# Altium schematic symbol library AliPadash.SchLib: 1117 symbols (part 2 of 6)
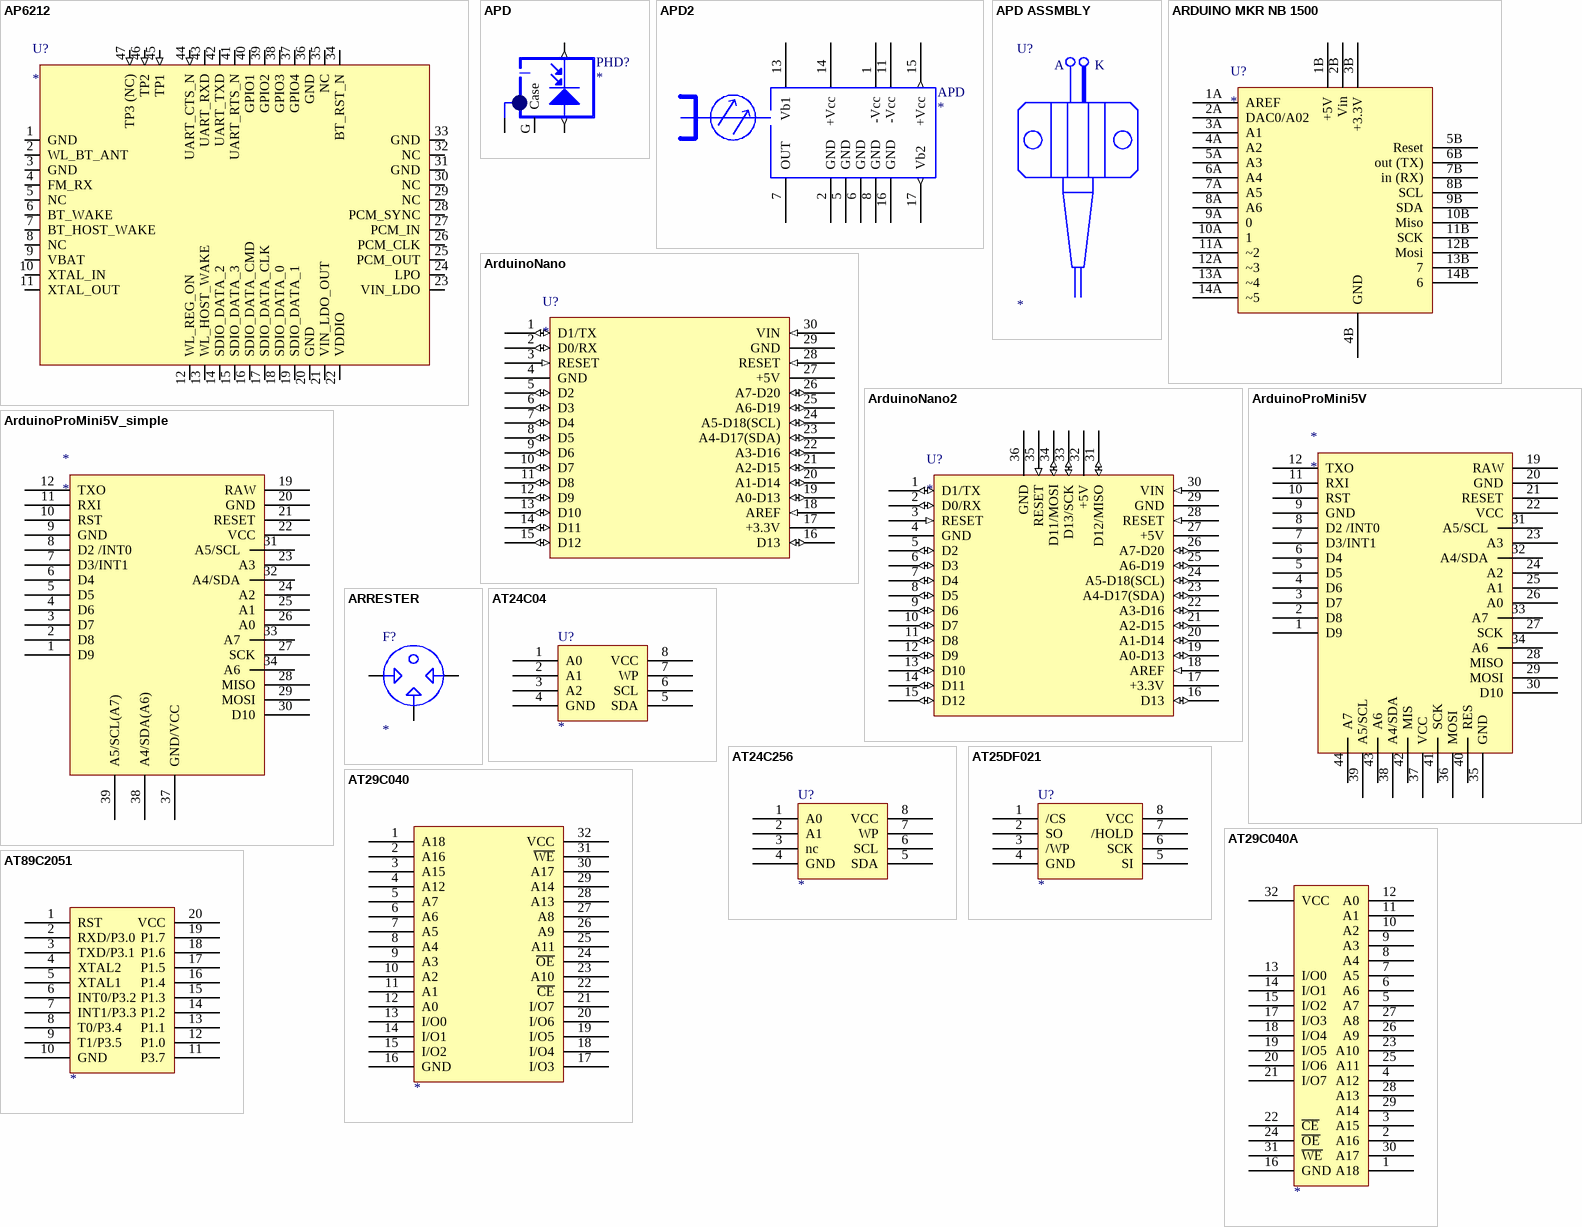
[diagram p84: symbols AP6212 to AT89C2051]

## AT29C040A
designator ?
pins: 1 A18, 2 A16, 3 A15, 4 A12, 5 A7, 6 A6, 7 A5, 8 A4, 9 A3, 10 A2, 11 A1, 12 A0, 13 I/O0, 14 I/O1, 15 I/O2, 16 GND, 17 I/O3, 18 I/O4, 19 I/O5, 20 I/O6, 21 I/O7, 22 ~{CE}, 23 A10, 24 ~{OE}, 25 A11, 26 A9, 27 A8, 28 A13, 29 A14, 30 A17, 31 ~{WE}, 32 VCC

## AT89C2051
designator ?
pins: 1 RST, 2 RXD/P3.0, 3 TXD/P3.1, 4 XTAL2, 5 XTAL1, 6 INT0/P3.2, 7 INT1/P3.3, 8 T0/P3.4, 9 T1/P3.5, 10 GND, 11 P3.7, 12 P1.0, 13 P1.1, 14 P1.2, 15 P1.3, 16 P1.4, 17 P1.5, 18 P1.6, 19 P1.7, 20 VCC

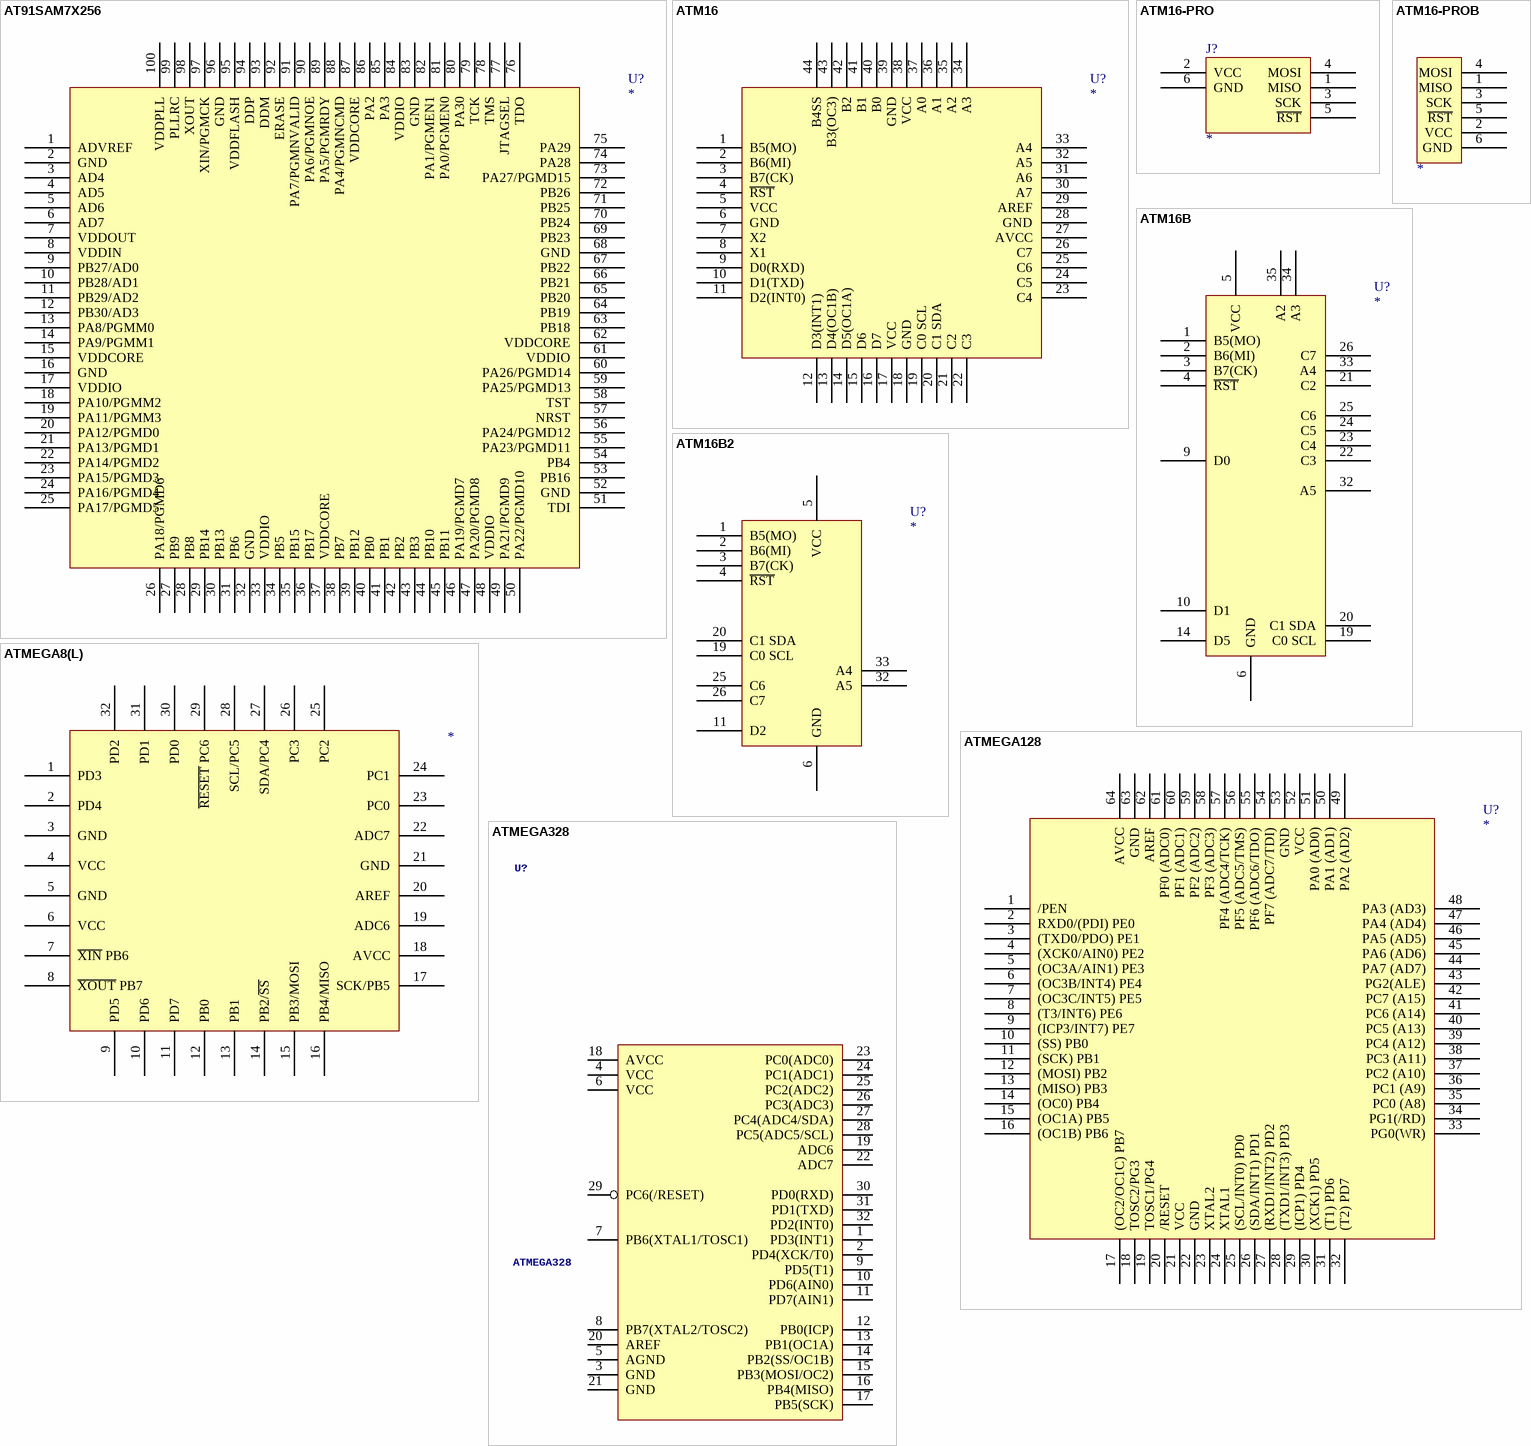
[diagram p15: symbols AT91SAM7X256 to ATMEGA328]

## AT91SAM7X256
designator U?
pins: 1 ADVREF, 2 GND, 3 AD4, 4 AD5, 5 AD6, 6 AD7, 7 VDDOUT, 8 VDDIN, 9 PB27/AD0, 10 PB28/AD1, 11 PB29/AD2, 12 PB30/AD3, 13 PA8/PGMM0, 14 PA9/PGMM1, 15 VDDCORE, 16 GND, 17 VDDIO, 18 PA10/PGMM2, 19 PA11/PGMM3, 20 PA12/PGMD0, 21 PA13/PGMD1, 22 PA14/PGMD2, 23 PA15/PGMD3, 24 PA16/PGMD4, 25 PA17/PGMD5, 26 PA18/PGMD6, 27 PB9, 28 PB8, 29 PB14, 30 PB13, 31 PB6, 32 GND, 33 VDDIO, 34 PB5, 35 PB15, 36 PB17, 37 VDDCORE, 38 PB7, 39 PB12, 40 PB0, 41 PB1, 42 PB2, 43 PB3, 44 PB10, 45 PB11, 46 PA19/PGMD7, 47 PA20/PGMD8, 48 VDDIO, 49 PA21/PGMD9, 50 PA22/PGMD10, 51 TDI, 52 GND, 53 PB16, 54 PB4, 55 PA23/PGMD11, 56 PA24/PGMD12, 57 NRST, 58 TST, 59 PA25/PGMD13, 60 PA26/PGMD14, 61 VDDIO, 62 VDDCORE, 63 PB18, 64 PB19, 65 PB20, 66 PB21, 67 PB22, 68 GND, 69 PB23, 70 PB24, 71 PB25, 72 PB26, 73 PA27/PGMD15, 74 PA28, 75 PA29, 76 TDO, 77 JTAGSEL, 78 TMS, 79 TCK, 80 PA30, 81 PA0/PGMEN0, 82 PA1/PGMEN1, 83 GND, 84 VDDIO, 85 PA3, 86 PA2, 87 VDDCORE, 88 PA4/PGMNCMD, 89 PA5/PGMRDY, 90 PA6/PGMNOE, 91 PA7/PGMNVALID, 92 ERASE, 93 DDM, 94 DDP, 95 VDDFLASH, 96 GND, 97 XIN/PGMCK, 98 XOUT, 99 PLLRC, 100 VDDPLL

## ATM16
designator U?
footprint TQFP44
pins: 1 B5(MO), 2 B6(MI), 3 B7(CK), 4 ~{RST}, 5 VCC, 6 GND, 7 X2, 8 X1, 9 D0(RXD), 10 D1(TXD), 11 D2(INT0), 12 D3(INT1), 13 D4(OC1B), 14 D5(OC1A), 15 D6, 16 D7, 17 VCC, 18 GND, 19 C0 SCL, 20 C1 SDA, 21 C2, 22 C3, 23 C4, 24 C5, 25 C6, 26 C7, 27 AVCC, 28 GND, 29 AREF, 30 A7, 31 A6, 32 A5, 33 A4, 34 A3, 35 A2, 36 A1, 37 A0, 38 VCC, 39 GND, 40 B0, 41 B1, 42 B2, 43 B3(OC3), 44 B4SS

## ATM16-PRO
designator J?
footprint CON6/CON
pins: 1 MISO, 2 VCC, 3 SCK, 4 MOSI, 5 ~{RST}, 6 GND

## ATM16-PROB
designator ?
pins: 1 MISO, 2 VCC, 3 SCK, 4 MOSI, 5 ~{RST}, 6 GND

## ATM16B
designator U?
footprint 44A
pins: 1 B5(MO), 2 B6(MI), 3 B7(CK), 4 ~{RST}, 5 VCC, 6 GND, 9 D0, 10 D1, 14 D5, 19 C0 SCL, 20 C1 SDA, 21 C2, 22 C3, 23 C4, 24 C5, 25 C6, 26 C7, 32 A5, 33 A4, 34 A3, 35 A2

## ATM16B2
designator U?
footprint 44A
pins: 1 B5(MO), 2 B6(MI), 3 B7(CK), 4 ~{RST}, 5 VCC, 6 GND, 11 D2, 19 C0 SCL, 20 C1 SDA, 25 C6, 26 C7, 32 A5, 33 A4

## ATMEGA8(L)
designator ?
U?
footprint TQFP32
pins: 1 PD3, 2 PD4, 3 GND, 4 VCC, 5 GND, 6 VCC, 7 ~{XIN} PB6, 8 ~{XOUT} PB7, 9 PD5, 10 PD6, 11 PD7, 12 PB0, 13 PB1, 14 PB2/~{SS}, 15 PB3/MOSI, 16 PB4/MISO, 17 SCK/PB5, 18 AVCC, 19 ADC6, 20 AREF, 21 GND, 22 ADC7, 23 PC0, 24 PC1, 25 PC2, 26 PC3, 27 SDA/PC4, 28 SCL/PC5, 29 ~{RESET} PC6, 30 PD0, 31 PD1, 32 PD2

## ATMEGA128
designator U?
footprint 64A
pins: 1 /PEN, 2 RXD0/(PDI) PE0, 3 (TXD0/PDO) PE1, 4 (XCK0/AIN0) PE2, 5 (OC3A/AIN1) PE3, 6 (OC3B/INT4) PE4, 7 (OC3C/INT5) PE5, 8 (T3/INT6) PE6, 9 (ICP3/INT7) PE7, 10 (SS) PB0, 11 (SCK) PB1, 12 (MOSI) PB2, 13 (MISO) PB3, 14 (OC0) PB4, 15 (OC1A) PB5, 16 (OC1B) PB6, 17 (OC2/OC1C) PB7, 18 TOSC2/PG3, 19 TOSC1/PG4, 20 /RESET, 21 VCC, 22 GND, 23 XTAL2, 24 XTAL1, 25 (SCL/INT0) PD0, 26 (SDA/INT1) PD1, 27 (RXD1/INT2) PD2, 28 (TXD1/INT3) PD3, 29 (ICP1) PD4, 30 (XCK1) PD5, 31 (T1) PD6, 32 (T2) PD7, 33 PG0(WR), 34 PG1(/RD), 35 PC0 (A8), 36 PC1 (A9), 37 PC2 (A10), 38 PC3 (A11), 39 PC4 (A12), 40 PC5 (A13), 41 PC6 (A14), 42 PC7 (A15), 43 PG2(ALE), 44 PA7 (AD7), 45 PA6 (AD6), 46 PA5 (AD5), 47 PA4 (AD4), 48 PA3 (AD3), 49 PA2 (AD2), 50 PA1 (AD1), 51 PA0 (AD0), 52 VCC, 53 GND, 54 PF7 (ADC7/TDI), 55 PF6 (ADC6/TDO), 56 PF5 (ADC5/TMS), 57 PF4 (ADC4/TCK), 58 PF3 (ADC3), 59 PF2 (ADC2), 60 PF1 (ADC1), 61 PF0 (ADC0), 62 AREF, 63 GND, 64 AVCC

## ATMEGA328
designator U?
footprint TQFP32-08
pins: 1 PD3(INT1), 2 PD4(XCK/T0), 3 GND, 4 VCC, 5 AGND, 6 VCC, 7 PB6(XTAL1/TOSC1), 8 PB7(XTAL2/TOSC2), 9 PD5(T1), 10 PD6(AIN0), 11 PD7(AIN1), 12 PB0(ICP), 13 PB1(OC1A), 14 PB2(SS/OC1B), 15 PB3(MOSI/OC2), 16 PB4(MISO), 17 PB5(SCK), 18 AVCC, 19 ADC6, 20 AREF, 21 GND, 22 ADC7, 23 PC0(ADC0), 24 PC1(ADC1), 25 PC2(ADC2), 26 PC3(ADC3), 27 PC4(ADC4/SDA), 28 PC5(ADC5/SCL), 29 PC6(/RESET), 30 PD0(RXD), 31 PD1(TXD), 32 PD2(INT0)

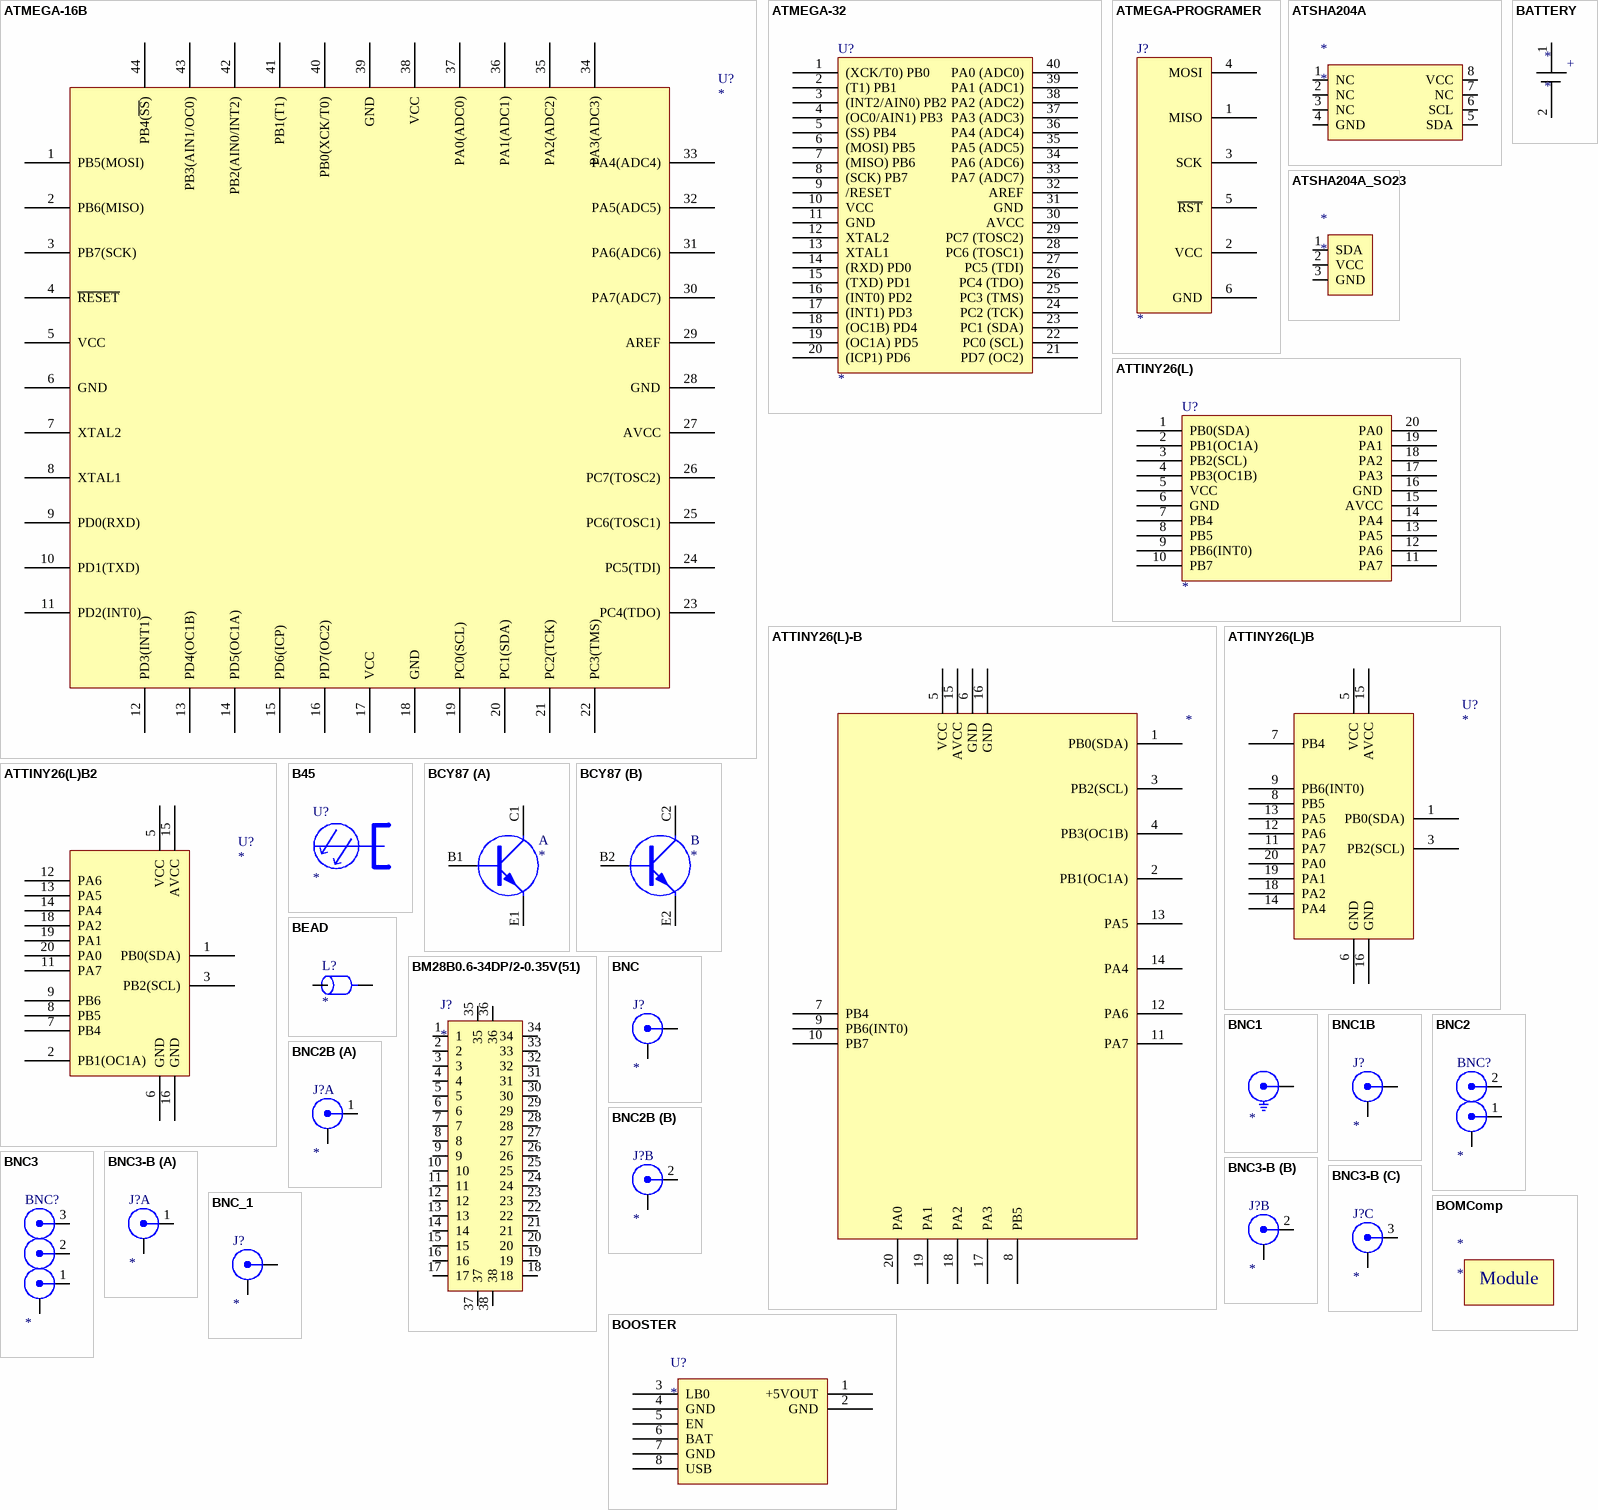
[diagram p16: symbols ATMEGA-16B to BOOSTER]

## ATMEGA-16B
designator U?
footprint TQFP44
pins: 1 PB5(MOSI), 2 PB6(MISO), 3 PB7(SCK), 4 ~{RESET}, 5 VCC, 6 GND, 7 XTAL2, 8 XTAL1, 9 PD0(RXD), 10 PD1(TXD), 11 PD2(INT0), 12 PD3(INT1), 13 PD4(OC1B), 14 PD5(OC1A), 15 PD6(ICP), 16 PD7(OC2), 17 VCC, 18 GND, 19 PC0(SCL), 20 PC1(SDA), 21 PC2(TCK), 22 PC3(TMS), 23 PC4(TDO), 24 PC5(TDI), 25 PC6(TOSC1), 26 PC7(TOSC2), 27 AVCC, 28 GND, 29 AREF, 30 PA7(ADC7), 31 PA6(ADC6), 32 PA5(ADC5), 33 PA4(ADC4), 34 PA3(ADC3), 35 PA2(ADC2), 36 PA1(ADC1), 37 PA0(ADC0), 38 VCC, 39 GND, 40 PB0(XCK/T0), 41 PB1(T1), 42 PB2(AIN0/INT2), 43 PB3(AIN1/OC0), 44 PB4(~{SS})

## ATMEGA-32
designator U?
footprint DIP40
pins: 1 (XCK/T0) PB0, 2 (T1) PB1, 3 (INT2/AIN0) PB2, 4 (OC0/AIN1) PB3, 5 (SS) PB4, 6 (MOSI) PB5, 7 (MISO) PB6, 8 (SCK) PB7, 9 /RESET, 10 VCC, 11 GND, 12 XTAL2, 13 XTAL1, 14 (RXD) PD0, 15 (TXD) PD1, 16 (INT0) PD2, 17 (INT1) PD3, 18 (OC1B) PD4, 19 (OC1A) PD5, 20 (ICP1) PD6, 21 PD7 (OC2), 22 PC0 (SCL), 23 PC1 (SDA), 24 PC2 (TCK), 25 PC3 (TMS), 26 PC4 (TDO), 27 PC5 (TDI), 28 PC6 (TOSC1), 29 PC7 (TOSC2), 30 AVCC, 31 GND, 32 AREF, 33 PA7 (ADC7), 34 PA6 (ADC6), 35 PA5 (ADC5), 36 PA4 (ADC4), 37 PA3 (ADC3), 38 PA2 (ADC2), 39 PA1 (ADC1), 40 PA0 (ADC0)

## ATMEGA-PROGRAMER
designator J?
footprint CON6/CON
pins: 1 MISO, 2 VCC, 3 SCK, 4 MOSI, 5 ~{RST}, 6 GND

## ATSHA204A
designator *
footprint UDFN-8 (SON, 8-Leads, Body 3.00x2.00mm, Pitch 0.50mm, IPC Medium Density)
pins: 1 NC, 2 NC, 3 NC, 4 GND, 5 SDA, 6 SCL, 7 NC, 8 VCC

## ATSHA204A_SO23
designator *
footprint SOT-23
pins: 1 SDA, 2 VCC, 3 GND

## ATTINY26(L)
designator U?
footprint DIP20
pins: 1 PB0(SDA), 2 PB1(OC1A), 3 PB2(SCL), 4 PB3(OC1B), 5 VCC, 6 GND, 7 PB4, 8 PB5, 9 PB6(INT0), 10 PB7, 11 PA7, 12 PA6, 13 PA5, 14 PA4, 15 AVCC, 16 GND, 17 PA3, 18 PA2, 19 PA1, 20 PA0

## ATTINY26(L)-B
designator ?
pins: 1 PB0(SDA), 2 PB1(OC1A), 3 PB2(SCL), 4 PB3(OC1B), 5 VCC, 6 GND, 7 PB4, 8 PB5, 9 PB6(INT0), 10 PB7, 11 PA7, 12 PA6, 13 PA5, 14 PA4, 15 AVCC, 16 GND, 17 PA3, 18 PA2, 19 PA1, 20 PA0

## ATTINY26(L)B
designator U?
footprint DIP20
pins: 1 PB0(SDA), 3 PB2(SCL), 5 VCC, 6 GND, 7 PB4, 8 PB5, 9 PB6(INT0), 11 PA7, 12 PA6, 13 PA5, 14 PA4, 15 AVCC, 16 GND, 18 PA2, 19 PA1, 20 PA0

## ATTINY26(L)B2
designator U?
footprint DIP20
pins: 1 PB0(SDA), 2 PB1(OC1A), 3 PB2(SCL), 5 VCC, 6 GND, 7 PB4, 8 PB5, 9 PB6, 11 PA7, 12 PA6, 13 PA5, 14 PA4, 15 AVCC, 16 GND, 18 PA2, 19 PA1, 20 PA0

## B45
designator U?

## BATTERY
designator *
pins: 1, 2
text: +

## BCY87
designator ?
part A pins: B1 B, C1 C, E1 E
part B pins: B2 B, C2 C, E2 E

## BEAD
designator L?
footprint BEAD
pins: 1, 2

## BM28B0.6-34DP/2-0.35V(51)
designator J?
footprint BM28B0.6-34DP/2-0.35V(51) (Footprint not found)
pins: 1, 2, 3, 4, 5, 6, 7, 8, 9, 10, 11, 12, 13, 14, 15, 16, 17, 18, 19, 20, 21, 22, 23, 24, 25, 26, 27, 28, 29, 30, 31, 32, 33, 34, 35, 36, 37, 38

## BNC
designator J?
footprint JAK-BNC3
pins: 1, 2

## BNC1
designator ?
pins: 1, G GND hidden to GND

## BNC1B
designator J?
footprint BNC1-CANARE
pins: 1, G

## BNC2
designator BNC?
footprint BNC2-CANARE
pins: 1, 2, G

## BNC2B
designator J?
footprint BNC2-CANARE
part A pins: 1, G
part B pins: 2, G

## BNC3
designator BNC?
footprint BNC3-CANARE
pins: 1, 2, 3, G

## BNC3-B
designator J?
footprint BNC3-CANARE
part A pins: 1, G
part B pins: 2, G
part C pins: 3, G

## BNC_1
designator J?
footprint JAK-BNC3
pins: 1, 2

## BOMComp
designator *
text: Module

## BOOSTER
designator U?
footprint booster
pins: 1 +5VOUT, 2 GND, 3 LB0, 4 GND, 5 EN, 6 BAT, 7 GND, 8 USB

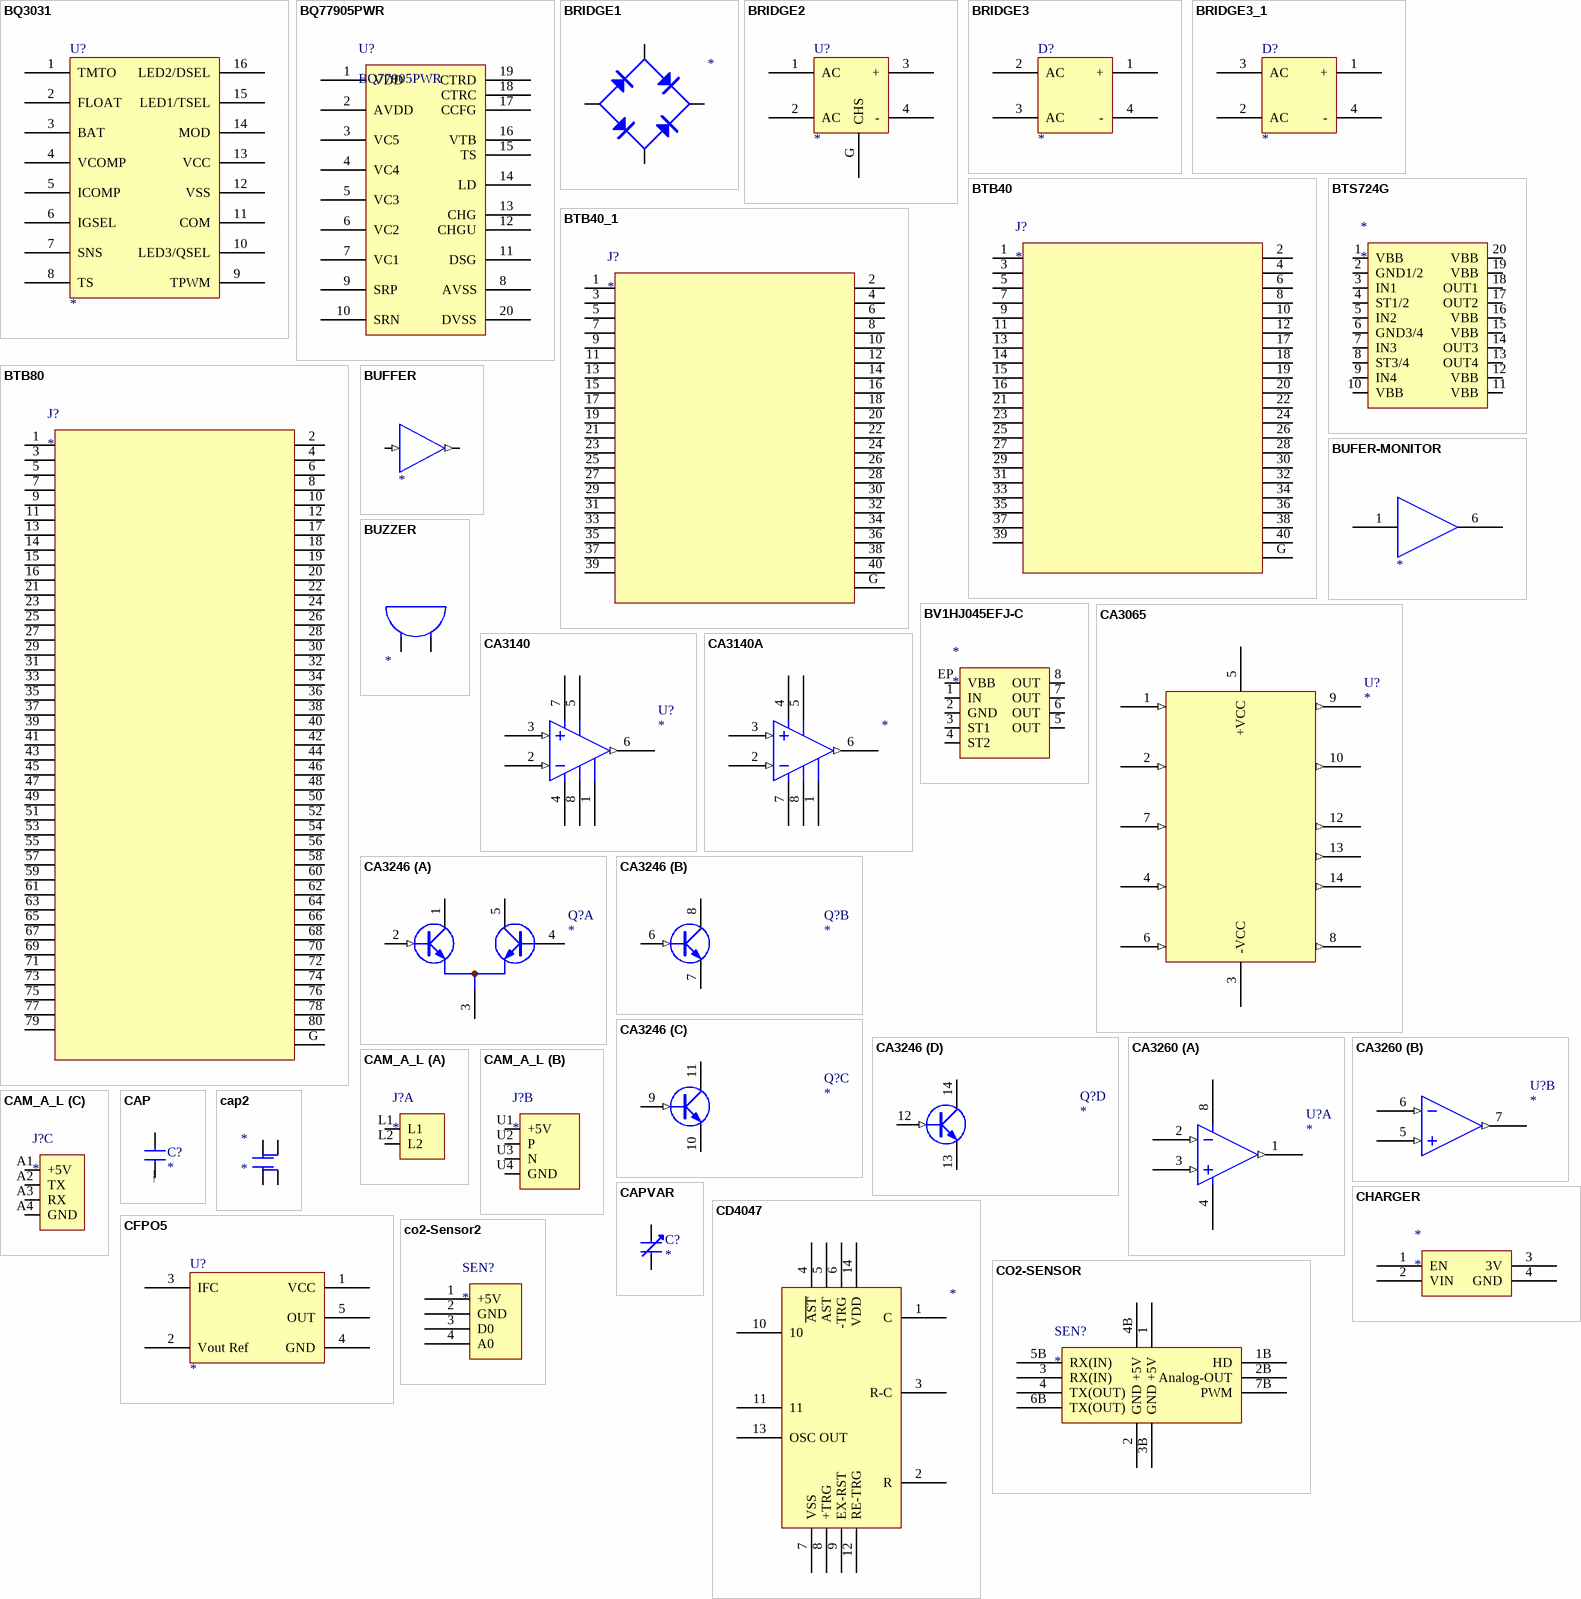
[diagram p17: symbols BQ3031 to co2-Sensor2]

## BQ3031
designator U?
footprint DIP16
footprint SO-16
pins: 1 TMTO, 2 FLOAT, 3 BAT, 4 VCOMP, 5 ICOMP, 6 IGSEL, 7 SNS, 8 TS, 9 TPWM, 10 LED3/QSEL, 11 COM, 12 VSS, 13 VCC, 14 MOD, 15 LED1/TSEL, 16 LED2/DSEL

## BQ77905PWR
designator U?
pins: 1 VDD, 2 AVDD, 3 VC5, 4 VC4, 5 VC3, 6 VC2, 7 VC1, 8 AVSS, 9 SRP, 10 SRN, 11 DSG, 12 CHGU, 13 CHG, 14 LD, 15 TS, 16 VTB, 17 CCFG, 18 CTRC, 19 CTRD, 20 DVSS

## BRIDGE1
designator ?
pins: 1, 2, 3, 4

## BRIDGE2
designator U?
footprint BRIDGE
pins: 1 AC, 2 AC, 3 +, 4 -, G CHS

## BRIDGE3
designator D?
footprint BRG-1
pins: 1 +, 2 AC, 3 AC, 4 -

## BRIDGE3_1
designator D?
footprint BRG-1
pins: 1 +, 2 AC, 3 AC, 4 -

## BTB40
designator J?
footprint BTB2X40 (SON, 80-Leads, Body 36/20x6/00mm, Pitch 0/80mm, IPC Medium Density)
pins: 1  , 2  , 3  , 4  , 5  , 6  , 7  , 8  , 9  , 10  , 11  , 12  , 13  , 14  , 15  , 16  , 17  , 18  , 19  , 20  , 21  , 22  , 23  , 24  , 25  , 26  , 27  , 28  , 29  , 30  , 31  , 32  , 33  , 34  , 35  , 36  , 37  , 38  , 39  , 40  , G  

## BTB40_1
designator J?
footprint BTB2X40 (SON, 80-Leads, Body 36/20x6/00mm, Pitch 0/80mm, IPC Medium Density)
pins: 1  , 2  , 3  , 4  , 5  , 6  , 7  , 8  , 9  , 10  , 11  , 12  , 13  , 14  , 15  , 16  , 17  , 18  , 19  , 20  , 21  , 22  , 23  , 24  , 25  , 26  , 27  , 28  , 29  , 30  , 31  , 32  , 33  , 34  , 35  , 36  , 37  , 38  , 39  , 40  , G  

## BTB80
designator J?
footprint BTB2X40 (SON, 80-Leads, Body 36/20x6/00mm, Pitch 0/80mm, IPC Medium Density)
pins: 1  , 2  , 3  , 4  , 5  , 6  , 7  , 8  , 9  , 10  , 11  , 12  , 13  , 14  , 15  , 16  , 17  , 18  , 19  , 20  , 21  , 22  , 23  , 24  , 25  , 26  , 27  , 28  , 29  , 30  , 31  , 32  , 33  , 34  , 35  , 36  , 37  , 38  , 39  , 40  , 41  , 42  , 43  , 44  , 45  , 46  , 47  , 48  , 49  , 50  , 51  , 52  , 53  , 54  , 55  , 56  , 57  , 58  , 59  , 60  , 61  , 62  , 63  , 64  , 65  , 66  , 67  , 68  , 69  , 70  , 71  , 72  , 73  , 74  , 75  , 76  , 77  , 78  , 79  , 80  , G  

## BTS724G
designator *
footprint SO-20WB
pins: 1 VBB, 2 GND1/2, 3 IN1, 4 ST1/2, 5 IN2, 6 GND3/4, 7 IN3, 8 ST3/4, 9 IN4, 10 VBB, 11 VBB, 12 VBB, 13 OUT4, 14 OUT3, 15 VBB, 16 VBB, 17 OUT2, 18 OUT1, 19 VBB, 20 VBB

## BUFER-MONITOR
designator ?
pins: 1, 2 +12V hidden to +12V, 3 GND hidden to GND, 4 +12V hidden to +12V, 5 GND hidden to GND, 6

## BUFFER
designator ?
pins: 1 (in), 2 (out)

## BUZZER
designator ?
pins: 1, 2

## BV1HJ045EFJ-C
designator *
footprint SO-8-EP
pins: 1 IN, 2 GND, 3 ST1, 4 ST2, 5 OUT, 6 OUT, 7 OUT, 8 OUT, EP VBB

## CA3065
designator U?
pins: 1 (in), 2 (in), 3 -VCC, 4 (in), 5 +VCC, 6 (in), 7 (in), 8 (out), 9 (out), 10 (out), 12 (out), 13 (out), 14 (out)

## CA3140
designator U?
pins: 1 COMP3, 2 -IN (in), 3 +IN (in), 4 V-, 5 COMP1, 6 OUT (out), 7 V+, 8 COMP2

## CA3140A
designator ?
pins: 1 COMP3, 2 -IN (in), 3 +IN (in), 4 V-, 5 COMP1, 6 OUT (out), 7 V+, 8 COMP2

## CA3246
designator Q?
part A pins: 1 C, 2 B (in), 3 E, 4, 5
part B pins: 6 B (in), 7 E, 8 C
part C pins: 9 B (in), 10 E, 11 C
part D pins: 12 B (in), 13 E, 14 C

## CA3260
designator U?
part A pins: 1 OUT (out), 2 -IN (in), 3 +IN (in), 4 V-, 8 V+
part B pins: 5 +IN (in), 6 -IN (in), 7 OUT (out)

## CAM_A_L
designator J?
footprint CAM_AVR_LSR
part A pins: L1, L2
part B pins: U1 +5V, U2 P, U3 N, U4 GND
part C pins: A1 +5V, A2 TX, A3 RX, A4 GND

## CAP
designator C?
footprint 0805
footprint CAP0.4
footprint 0402
footprint RAD0.
pins: 1, 2
text: @DesignPCB

## cap2
designator *
footprint 1206-2
pins: 1, 2, 3, 4

## CAPVAR
designator C?
footprint TERIMER-2
pins: 1, 2

## CD4047
designator ?
pins: 1 C, 2 R, 3 R-C, 4 ~{AST}, 5 AST, 6 -TRG, 7 VSS, 8 +TRG, 9 EX-RST, 10, 11, 12 RE-TRG, 13 OSC OUT, 14 VDD

## CFPO5
designator U?
footprint VCO-2
pins: 1 VCC, 2 Vout Ref, 3 IFC, 4 GND, 5 OUT

## CHARGER
designator *
footprint LI-ION-CHARGER
pins: 1 EN, 2 VIN, 3 3V, 4 GND

## CO2-SENSOR
designator SEN?
footprint MH-z16 -board
pins: 1 +5V, 1B HD, 2 GND, 2B Analog-OUT, 3 RX(IN), 3B GND, 4 TX(OUT), 4B +5V, 5B RX(IN), 6B TX(OUT), 7B PWM

## co2-Sensor2
designator SEN?
footprint sprinyir
pins: 1 +5V, 2 GND, 3 D0, 4 A0

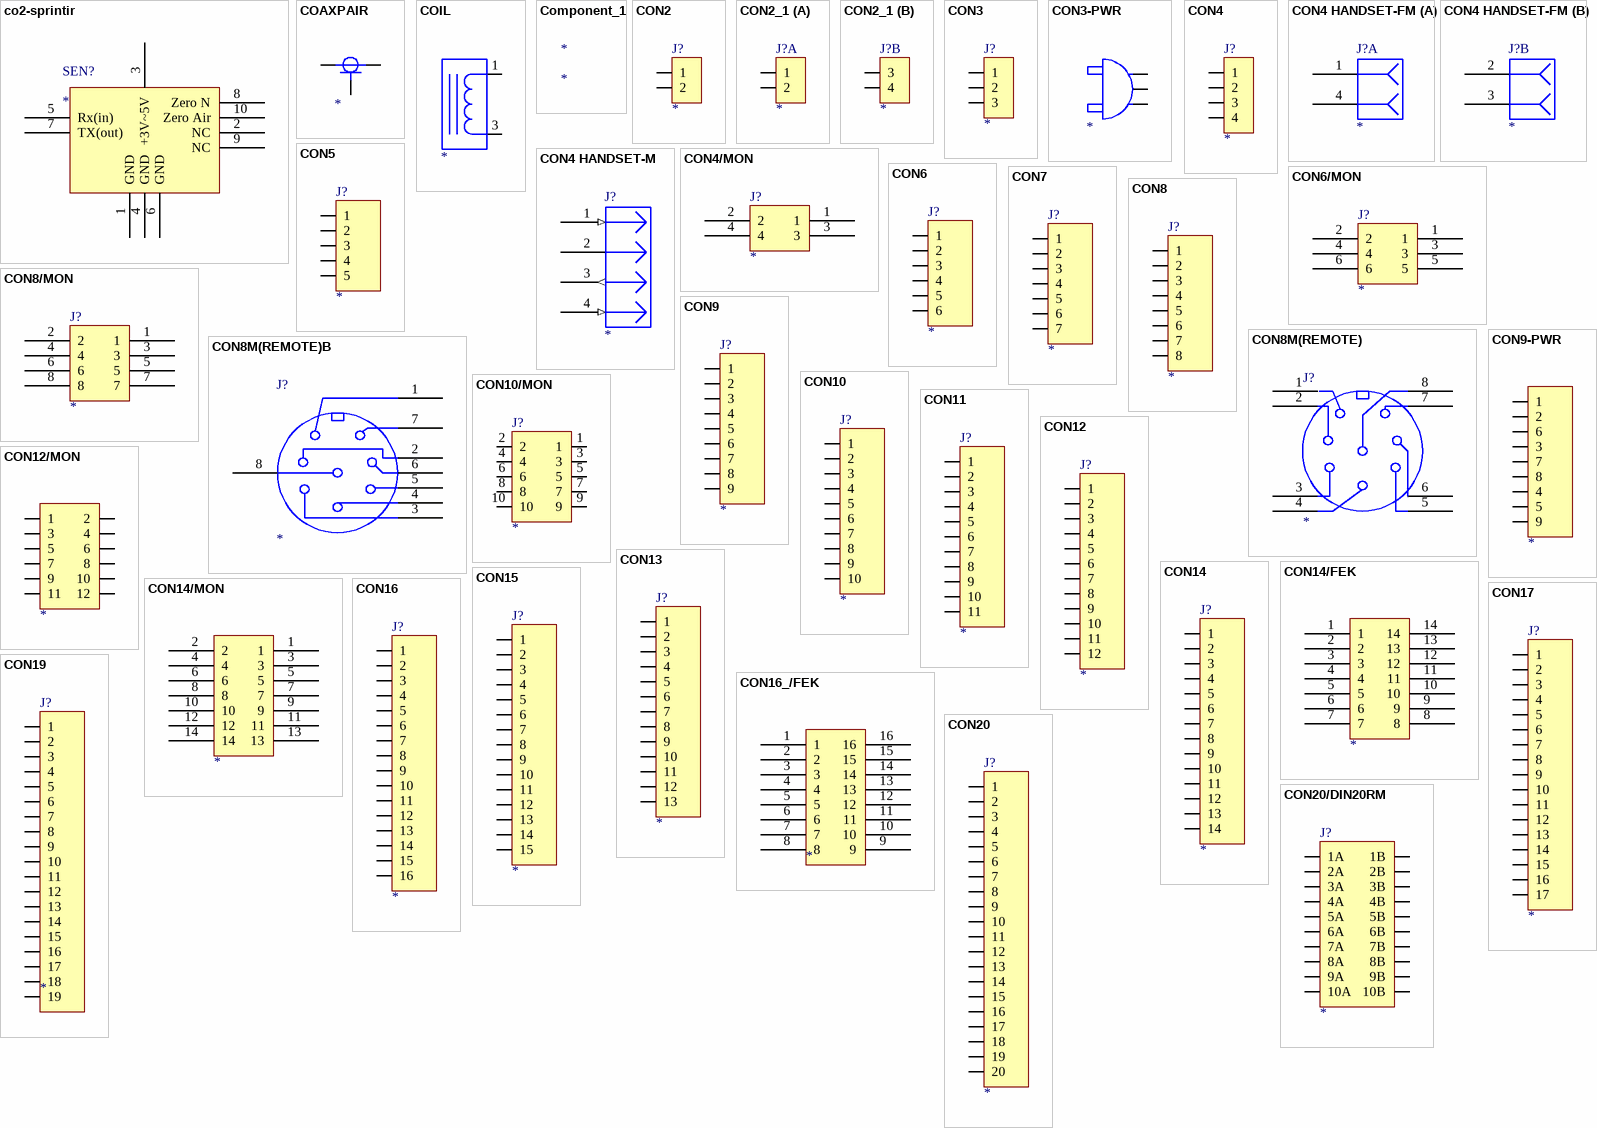
[diagram p18: symbols co2-sprintir to CON20/DIN20RM]

## co2-sprintir
designator SEN?
footprint sprinyir
pins: 1 GND, 2 NC, 3 +3V~5V, 4 GND, 5 Rx(in), 6 GND, 7 TX(out), 8 Zero N, 9 NC, 10 Zero Air

## COAXPAIR
designator ?
pins: 1, 2, 3

## COIL
designator ?
pins: 1, 3

## Component_1
designator *

## CON2
designator J?
pins: 1, 2

## CON2_1
designator J?
part A pins: 1, 2
part B pins: 3, 4

## CON3
designator J?
pins: 1, 2, 3

## CON3-PWR
designator ?
pins: 1, 2, 3

## CON4
designator J?
pins: 1, 2, 3, 4

## CON4 HANDSET-FM
designator J?
part A pins: 1, 4
part B pins: 2, 3

## CON4 HANDSET-M
designator J?
pins: 1 SPK1 (in), 2 -MIC, 3 +MIC (out), 4 SPK2 (in)

## CON4/MON
designator J?
footprint IDC4
pins: 1, 2, 3, 4

## CON5
designator J?
pins: 1, 2, 3, 4, 5

## CON6
designator J?
pins: 1, 2, 3, 4, 5, 6

## CON6/MON
designator J?
footprint IDC6
pins: 1, 2, 3, 4, 5, 6

## CON7
designator J?
pins: 1, 2, 3, 4, 5, 6, 7

## CON8
designator J?
pins: 1, 2, 3, 4, 5, 6, 7, 8

## CON8/MON
designator J?
footprint IDCF8
pins: 1, 2, 3, 4, 5, 6, 7, 8

## CON8M(REMOTE)
designator J?
footprint CON8M
pins: 1, 2, 3, 4, 5, 6, 7, 8

## CON8M(REMOTE)B
designator J?
footprint CON8M
pins: 1, 2, 3, 4, 5, 6, 7, 8

## CON9
designator J?
pins: 1, 2, 3, 4, 5, 6, 7, 8, 9

## CON9-PWR
designator ?
pins: 1, 2, 3, 4, 5, 6, 7, 8, 9

## CON10
designator J?
pins: 1, 2, 3, 4, 5, 6, 7, 8, 9, 10

## CON10/MON
designator J?
footprint IDC10
pins: 1, 2, 3, 4, 5, 6, 7, 8, 9, 10

## CON11
designator J?
pins: 1, 2, 3, 4, 5, 6, 7, 8, 9, 10, 11

## CON12
designator J?
pins: 1, 2, 3, 4, 5, 6, 7, 8, 9, 10, 11, 12

## CON12/MON
designator ?
pins: 1, 2, 3, 4, 5, 6, 7, 8, 9, 10, 11, 12

## CON13
designator J?
pins: 1, 2, 3, 4, 5, 6, 7, 8, 9, 10, 11, 12, 13

## CON14
designator J?
pins: 1, 2, 3, 4, 5, 6, 7, 8, 9, 10, 11, 12, 13, 14

## CON14/FEK
designator ?
pins: 1, 2, 3, 4, 5, 6, 7, 8, 9, 10, 11, 12, 13, 14

## CON14/MON
designator ?
pins: 1, 2, 3, 4, 5, 6, 7, 8, 9, 10, 11, 12, 13, 14

## CON15
designator J?
pins: 1, 2, 3, 4, 5, 6, 7, 8, 9, 10, 11, 12, 13, 14, 15

## CON16
designator J?
pins: 1, 2, 3, 4, 5, 6, 7, 8, 9, 10, 11, 12, 13, 14, 15, 16

## CON16_/FEK
designator ?
pins: 1, 2, 3, 4, 5, 6, 7, 8, 9, 10, 11, 12, 13, 14, 15, 16

## CON17
designator J?
pins: 1, 2, 3, 4, 5, 6, 7, 8, 9, 10, 11, 12, 13, 14, 15, 16, 17

## CON19
designator J?
pins: 1, 2, 3, 4, 5, 6, 7, 8, 9, 10, 11, 12, 13, 14, 15, 16, 17, 18, 19

## CON20
designator J?
pins: 1, 2, 3, 4, 5, 6, 7, 8, 9, 10, 11, 12, 13, 14, 15, 16, 17, 18, 19, 20

## CON20/DIN20RM
designator J?
footprint DIN20RAF
pins: 1A, 1B, 2A, 2B, 3A, 3B, 4A, 4B, 5A, 5B, 6A, 6B, 7A, 7B, 8A, 8B, 9A, 9B, 10A, 10B

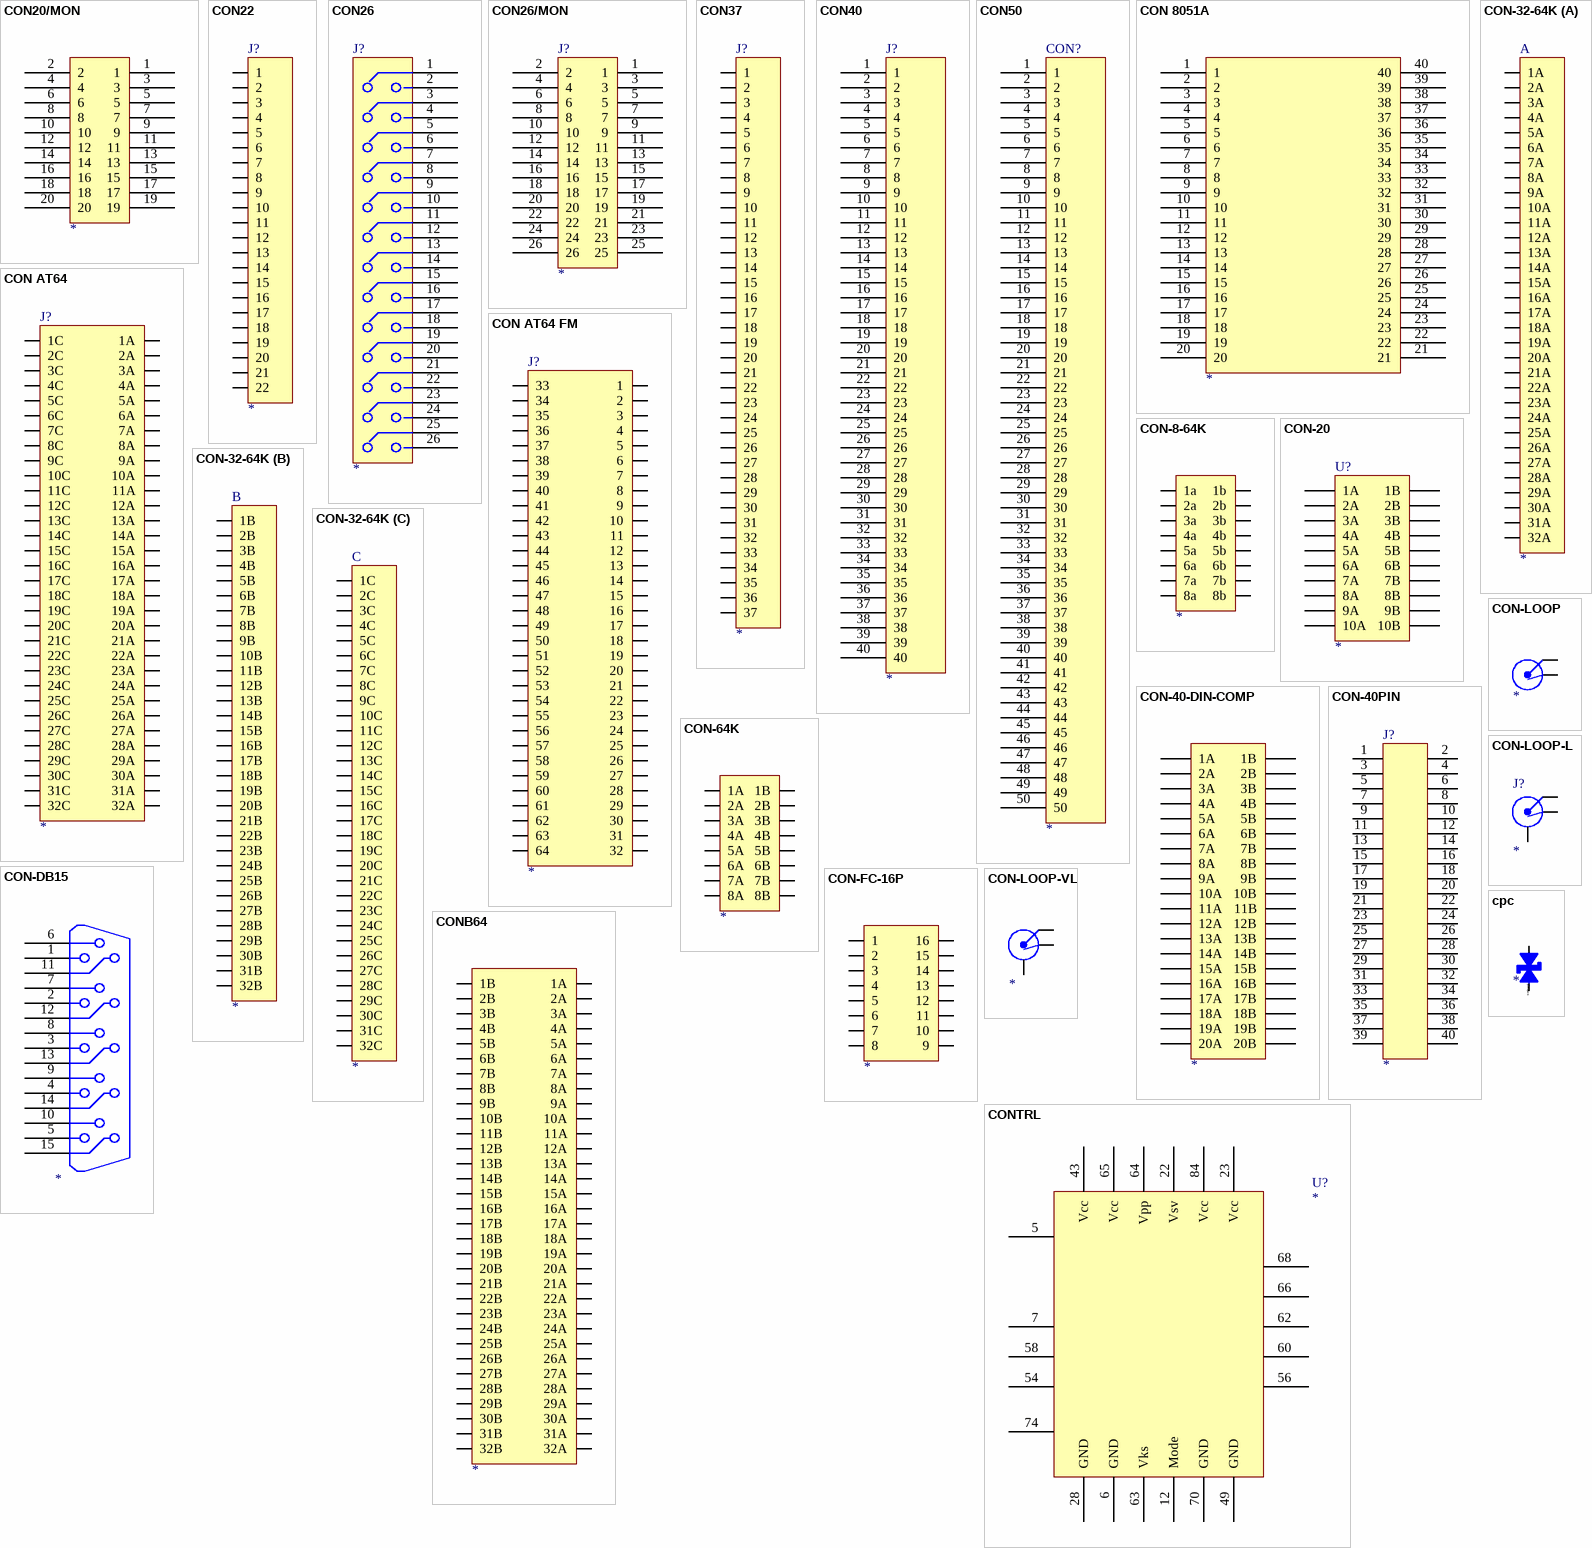
[diagram p19: symbols CON20/MON to cpc]

## CON20/MON
designator ?
pins: 1, 2, 3, 4, 5, 6, 7, 8, 9, 10, 11, 12, 13, 14, 15, 16, 17, 18, 19, 20

## CON22
designator J?
pins: 1, 2, 3, 4, 5, 6, 7, 8, 9, 10, 11, 12, 13, 14, 15, 16, 17, 18, 19, 20, 21, 22

## CON26
designator J?
footprint IDM26
pins: 1, 2, 3, 4, 5, 6, 7, 8, 9, 10, 11, 12, 13, 14, 15, 16, 17, 18, 19, 20, 21, 22, 23, 24, 25, 26

## CON26/MON
designator J?
footprint IDCF26
pins: 1, 2, 3, 4, 5, 6, 7, 8, 9, 10, 11, 12, 13, 14, 15, 16, 17, 18, 19, 20, 21, 22, 23, 24, 25, 26

## CON37
designator J?
pins: 1, 2, 3, 4, 5, 6, 7, 8, 9, 10, 11, 12, 13, 14, 15, 16, 17, 18, 19, 20, 21, 22, 23, 24, 25, 26, 27, 28, 29, 30, 31, 32, 33, 34, 35, 36, 37

## CON40
designator J?
pins: 1, 2, 3, 4, 5, 6, 7, 8, 9, 10, 11, 12, 13, 14, 15, 16, 17, 18, 19, 20, 21, 22, 23, 24, 25, 26, 27, 28, 29, 30, 31, 32, 33, 34, 35, 36, 37, 38, 39, 40

## CON50
designator CON?
Flat Cable Connector
pins: 1, 2, 3, 4, 5, 6, 7, 8, 9, 10, 11, 12, 13, 14, 15, 16, 17, 18, 19, 20, 21, 22, 23, 24, 25, 26, 27, 28, 29, 30, 31, 32, 33, 34, 35, 36, 37, 38, 39, 40, 41, 42, 43, 44, 45, 46, 47, 48, 49, 50

## CON 8051A
designator ?
pins: 1, 2, 3, 4, 5, 6, 7, 8, 9, 10, 11, 12, 13, 14, 15, 16, 17, 18, 19, 20, 21, 22, 23, 24, 25, 26, 27, 28, 29, 30, 31, 32, 33, 34, 35, 36, 37, 38, 39, 40

## CON AT64
designator J?
pins: 1A, 1C, 2A, 2C, 3A, 3C, 4A, 4C, 5A, 5C, 6A, 6C, 7A, 7C, 8A, 8C, 9A, 9C, 10A, 10C, 11A, 11C, 12A, 12C, 13A, 13C, 14A, 14C, 15A, 15C, 16A, 16C, 17A, 17C, 18A, 18C, 19A, 19C, 20A, 20C, 21A, 21C, 22A, 22C, 23A, 23C, 24A, 24C, 25A, 25C, 26A, 26C, 27A, 27C, 28A, 28C, 29A, 29C, 30A, 30C, 31A, 31C, 32A, 32C

## CON AT64 FM
designator J?
pins: 1, 2, 3, 4, 5, 6, 7, 8, 9, 10, 11, 12, 13, 14, 15, 16, 17, 18, 19, 20, 21, 22, 23, 24, 25, 26, 27, 28, 29, 30, 31, 32, 33, 34, 35, 36, 37, 38, 39, 40, 41, 42, 43, 44, 45, 46, 47, 48, 49, 50, 51, 52, 53, 54, 55, 56, 57, 58, 59, 60, 61, 62, 63, 64

## CON-8-64K
designator ?
pins: 1 1a, 1 1b, 2 2a, 2 2b, 3 3a, 3 3b, 4 4a, 4 4b, 5 5a, 5 5b, 6 6a, 6 6b, 7 7a, 7 7b, 8 8a, 8 8b

## CON-20
designator U?
footprint DIN20RAM
footprint DIN20RAF
pins: 1A, 1B, 2A, 2B, 3A, 3B, 4A, 4B, 5A, 5B, 6A, 6B, 7A, 7B, 8A, 8B, 9A, 9B, 10A, 10B

## CON-32-64K
designator ?
part A pins: 1A, 2A, 3A, 4A, 5A, 6A, 7A, 8A, 9A, 10A, 11A, 12A, 13A, 14A, 15A, 16A, 17A, 18A, 19A, 20A, 21A, 22A, 23A, 24A, 25A, 26A, 27A, 28A, 29A, 30A, 31A, 32A
part B pins: 1B, 2B, 3B, 4B, 5B, 6B, 7B, 8B, 9B, 10B, 11B, 12B, 13B, 14B, 15B, 16B, 17B, 18B, 19B, 20B, 21B, 22B, 23B, 24B, 25B, 26B, 27B, 28B, 29B, 30B, 31B, 32B
part C pins: 1C, 2C, 3C, 4C, 5C, 6C, 7C, 8C, 9C, 10C, 11C, 12C, 13C, 14C, 15C, 16C, 17C, 18C, 19C, 20C, 21C, 22C, 23C, 24C, 25C, 26C, 27C, 28C, 29C, 30C, 31C, 32C

## CON-40-DIN-COMP
designator ?
pins: 1 1A, 1 1B, 2 2A, 2 2B, 3 3A, 3 3B, 4 4A, 4 4B, 5 5A, 5 5B, 6 6A, 6 6B, 7 7A, 7 7B, 8 8A, 8 8B, 9 9A, 9 9B, 10 10A, 10 10B, 11 11A, 11 11B, 12 12A, 12 12B, 13 13A, 13 13B, 14 14A, 14 14B, 15 15A, 15 15B, 16 16A, 16 16B, 17 17A, 17 17B, 18 18A, 18 18B, 19 19A, 19 19B, 20 20A, 20 20B

## CON-40PIN
designator J?
pins: 1, 2, 3, 4, 5, 6, 7, 8, 9, 10, 11, 12, 13, 14, 15, 16, 17, 18, 19, 20, 21, 22, 23, 24, 25, 26, 27, 28, 29, 30, 31, 32, 33, 34, 35, 36, 37, 38, 39, 40

## CON-64K
designator ?
pins: 1A, 1B, 2A, 2B, 3A, 3B, 4A, 4B, 5A, 5B, 6A, 6B, 7A, 7B, 8A, 8B

## CON-DB15
designator ?
pins: 1, 2, 3, 4, 5, 6, 7, 8, 9, 10, 11, 12, 13, 14, 15

## CON-FC-16P
designator ?
pins: 1, 2, 3, 4, 5, 6, 7, 8, 9, 10, 11, 12, 13, 14, 15, 16

## CON-LOOP
designator ?
pins: 1, 2, G GND hidden to GND

## CON-LOOP-L
designator J?
pins: 1, 2, 3

## CON-LOOP-VL
designator ?
pins: 1, 2, G

## CONB64
designator ?
pins: 1A, 1B, 2A, 2B, 3A, 3B, 4A, 4B, 5A, 5B, 6A, 6B, 7A, 7B, 8A, 8B, 9A, 9B, 10A, 10B, 11A, 11B, 12A, 12B, 13A, 13B, 14A, 14B, 15A, 15B, 16A, 16B, 17A, 17B, 18A, 18B, 19A, 19B, 20A, 20B, 21A, 21B, 22A, 22B, 23A, 23B, 24A, 24B, 25A, 25B, 26A, 26B, 27A, 27B, 28A, 28B, 29A, 29B, 30A, 30B, 31A, 31B, 32A, 32B

## CONTRL
designator U?
pins: 5, 6 GND (power), 7, 12 Mode (power), 22 Vsv (power), 23 Vcc (power), 28 GND (power), 43 Vcc (power), 49 GND (power), 54, 56, 58, 60, 62, 63 Vks (power), 64 Vpp (power), 65 Vcc (power), 66, 68, 70 GND (power), 74, 84 Vcc (power)

## cpc
designator ?
pins: A, K
text: @DesignPCB

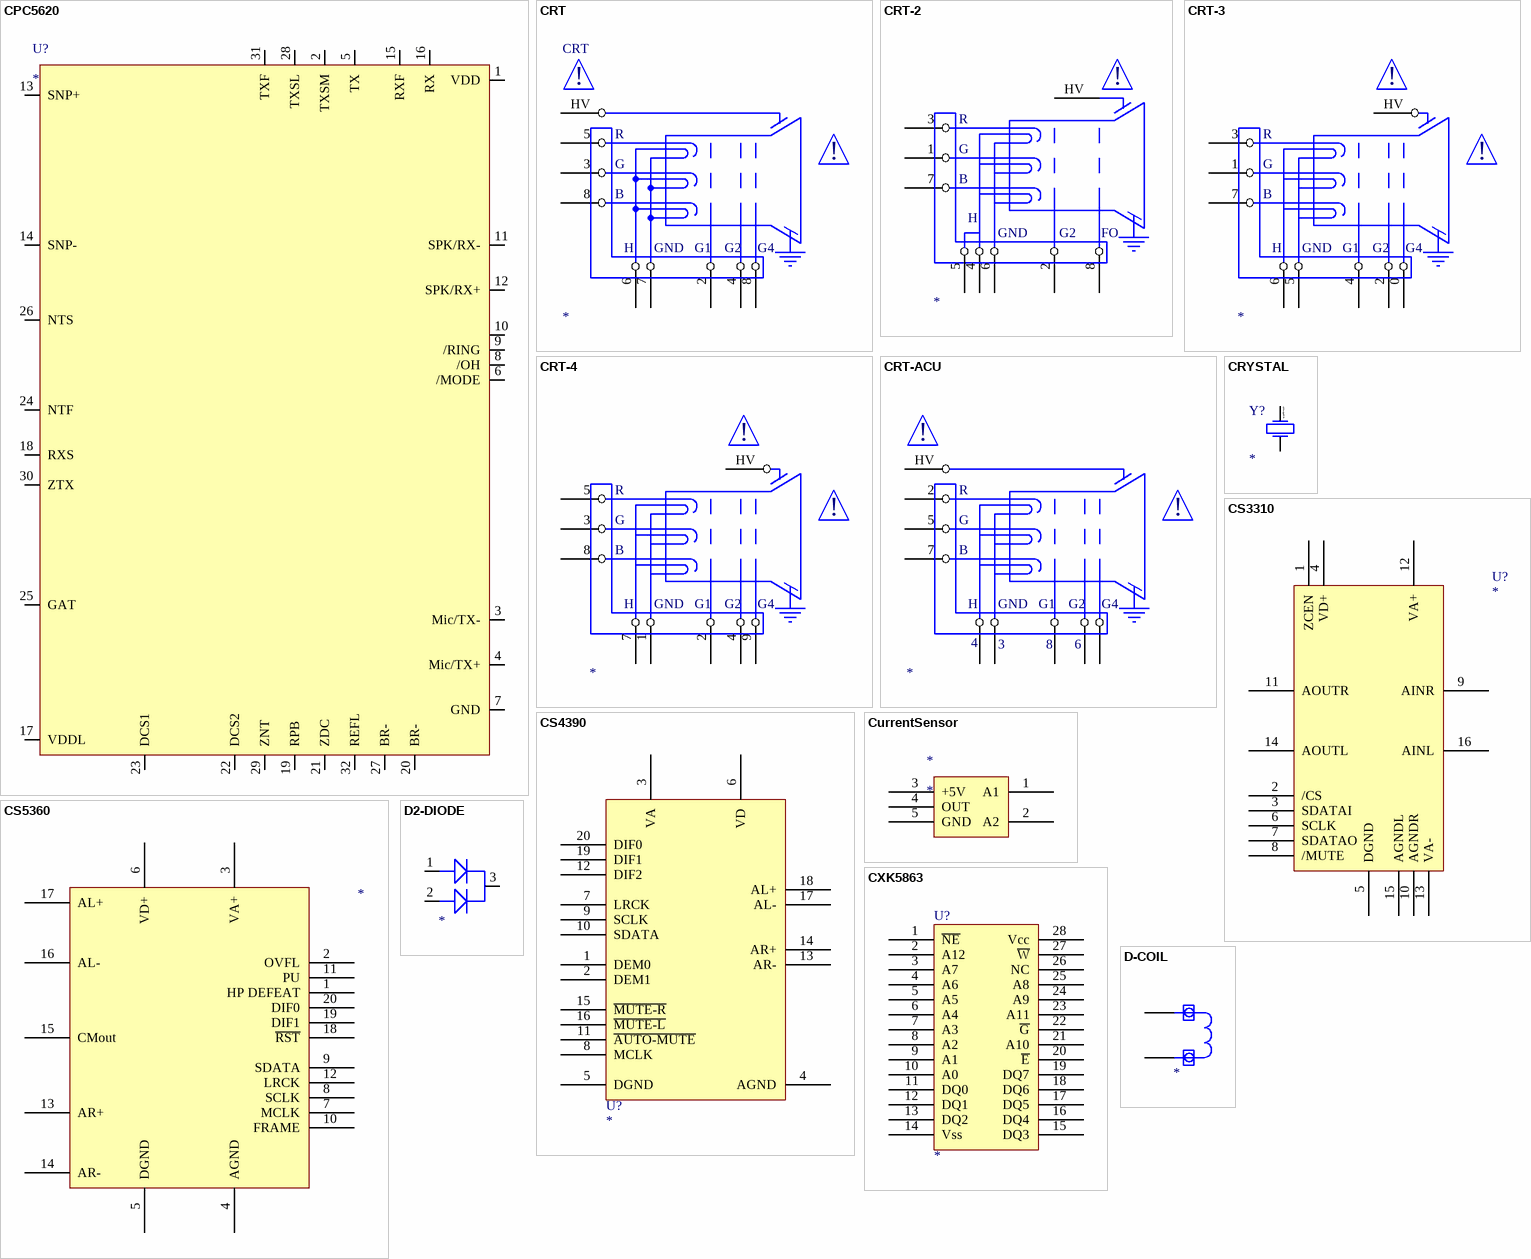
[diagram p20: symbols CPC5620 to D-COIL]

## CPC5620
designator U?
pins: 1 VDD "Low-voltage (CPE) side power supply", 2 TXSM "Transmit summing junction", 3 Mic/TX- "Negative differential transmit signal to DAA / from low-voltage side"", 4 Mic/TX+ "Positive differential transmit signal to DAA from / low-voltage side"", 5 TX "Transmit differential amplifier output", 6 /MODE "When asserted low, changes gain of TX path / (-7 dB) and RX path (+7 dB) to accommodate / reactive termination networks"", 7 GND "Low-voltage (CPE) side analog ground", 8 /OH "Assert logic low for off-hook operation", 9 /RING "Ringing Detect Output", 10 /CID "Assert logic low while on hook to allow CID / information to be passed to the RX+ and RX / output pins."", 11 SPK/RX- "Negative differential analog signal received / from the telephone line. Must be AC coupled / with 0.1 F."", 12 SPK/RX+ ""Positive differential analog signal received from / the telephone line. Must be AC coupled with / 0.1 F."", 13 SNP+ "Positive differential snoop input", 14 SNP- "Negative differential snoop input", 15 RXF "Receive photodiode amplifier output", 16 RX "Receive photodiode summing junction", 17 VDDL "Power supply for line side, regulated from tip / and ring."", 18 RXS "Receive isolation amp summing junction", 19 RPB "Receive LED pre-bias current set", 20 BR- "Bridge rectifier return", 21 ZDC "Electronic inductor DCR/current limit", 22 DCS2 "DC feedback output", 23 DCS1 "V to I slope control", 24 NTF "Network amplifier feedback", 25 GAT "External MOSFET gate control", 26 NTS "Receive signal input", 27 BR- "Bridge rectifier return", 28 TXSL "Transmit photodiode summing junction", 29 ZNT "Receiver impedance set", 30 ZTX "Transmit transconductance gain set", 31 TXF "Transmit photodiode amplifier output", 32 REFL "1.25 VDC reference"

## CRT
designator CRT
pins: 2, 3, 4, 5, 6, 7, 8, 8, HV
text: !; R; G; B; H; GND; G1; G2; G4

## CRT-2
designator ?
pins: 1, 2, 3, 4, 5, 6, 7, 8, HV
text: !; R; G; B; H; GND; G2; FO

## CRT-3
designator ?
pins: 0, 1, 2, 3, 4, 5, 6  , 7, HV
text: !; R; G; B; H; GND; G1; G2; G4

## CRT-4
designator ?
pins: 1, 2, 3, 4, 5, 7  , 8, 9, HV
text: !; R; G; B; H; GND; G1; G2; G4

## CRT-ACU
designator ?
pins: 2, 3, 4, 5, 7, ?1, ?2, ?3, HV
text: !; R; G; B; H; GND; G1; G2; G4; 8; 6

## CRYSTAL
designator Y?
footprint XTAL1
footprint XTALRA1
footprint CRYSTAL3.2*2.5
pins: 1, 2
text: @DesignPCB

## CS3310
designator U?
footprint SOL-16
pins: 1 ZCEN, 2 /CS, 3 SDATAI, 4 VD+, 5 DGND, 6 SCLK, 7 SDATAO, 8 /MUTE, 9 AINR, 10 AGNDR, 11 AOUTR, 12 VA+, 13 VA-, 14 AOUTL, 15 AGNDL, 16 AINL

## CS4390
designator U?
footprint SSOP20
pins: 1 DEM0, 2 DEM1, 3 VA, 4 AGND, 5 DGND, 6 VD, 7 LRCK, 8 MCLK, 9 SCLK, 10 SDATA, 11 ~{AUTO-MUTE}, 12 DIF2, 13 AR-, 14 AR+, 15 ~{MUTE-R}, 16 ~{MUTE-L}, 17 AL-, 18 AL+, 19 DIF1, 20 DIF0

## CS5360
designator ?
pins: 1 HP DEFEAT, 2 OVFL, 3 VA+, 4 AGND, 5 DGND, 6 VD+, 7 MCLK, 8 SCLK, 9 SDATA, 10 FRAME, 11 PU, 12 LRCK, 13 AR+, 14 AR-, 15 CMout, 16 AL-, 17 AL+, 18 ~{RST}, 19 DIF1, 20 DIF0

## CurrentSensor
designator *
footprint CurrentSensor (Footprint not found)
pins: 1 A1, 2 A2, 3 +5V, 4 OUT, 5 GND

## CXK5863
designator U?
footprint DIP28N
pins: 1 ~{NE}, 2 A12, 3 A7, 4 A6, 5 A5, 6 A4, 7 A3, 8 A2, 9 A1, 10 A0, 11 DQ0, 12 DQ1, 13 DQ2, 14 Vss, 15 DQ3, 16 DQ4, 17 DQ5, 18 DQ6, 19 DQ7, 20 ~{E}, 21 A10, 22 ~{G}, 23 A11, 24 A9, 25 A8, 26 NC, 27 ~{W}, 28 Vcc

## D2-DIODE
designator ?
pins: 1 A1, 2 C, 3 A2

## D-COIL
designator ?
pins: 5, 6

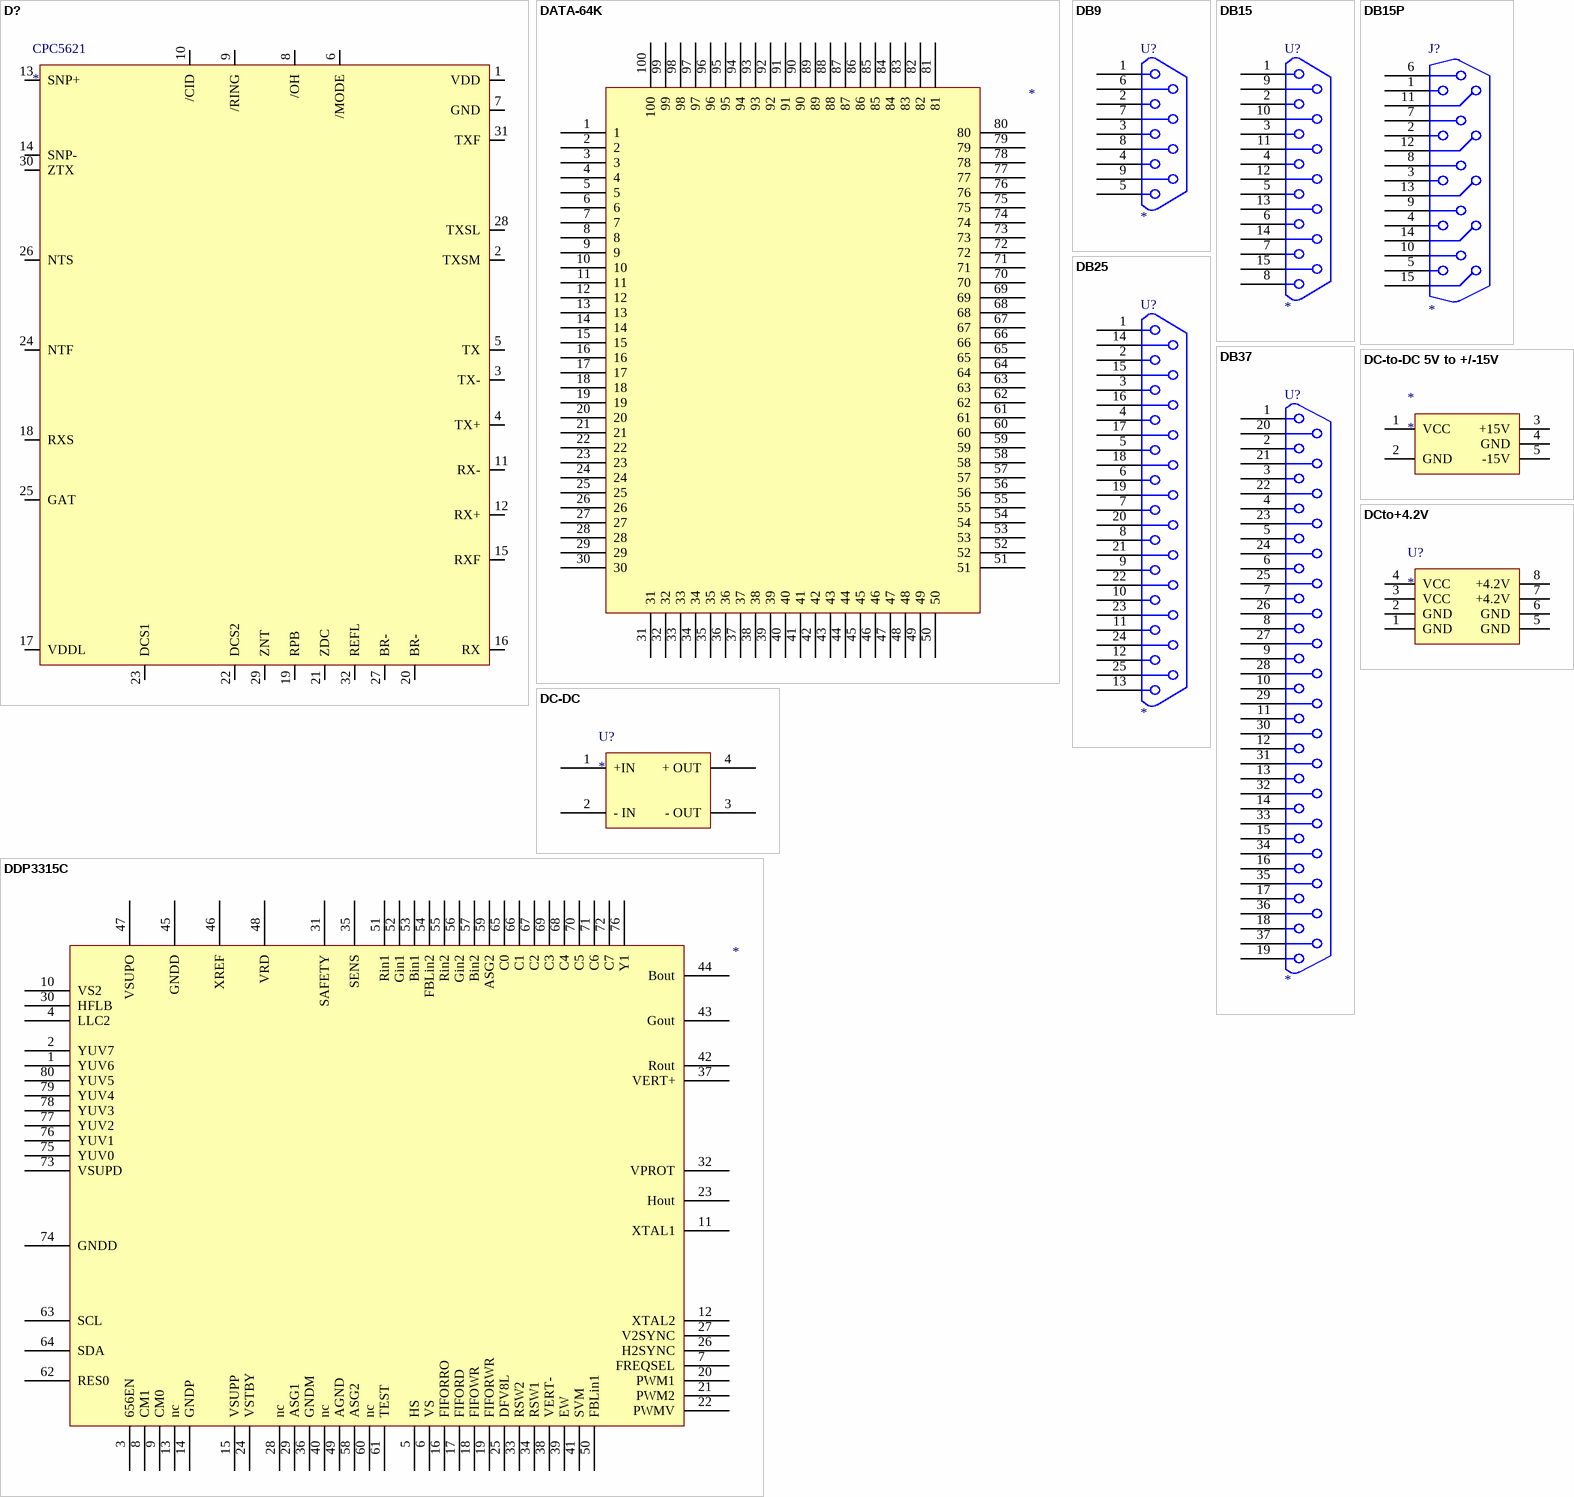
[diagram p21: symbols D? to DDP3315C]

## D?
designator CPC5621
pins: 1 VDD "Low-voltage (CPE) side power supply", 2 TXSM "Transmit summing junction", 3 TX- "Negative differential transmit signal to DAA / from low-voltage side"", 4 TX+ "Positive differential transmit signal to DAA from / low-voltage side"", 5 TX "Transmit differential amplifier output", 6 /MODE "When asserted low, changes gain of TX path / (-7 dB) and RX path (+7 dB) to accommodate / reactive termination networks"", 7 GND "Low-voltage (CPE) side analog ground", 8 /OH "Assert logic low for off-hook operation", 9 /RING "Ringing Detect Output", 10 /CID "Assert logic low while on hook to allow CID / information to be passed to the RX+ and RX / output pins."", 11 RX- "Negative differential analog signal received / from the telephone line. Must be AC coupled / with 0.1 F."", 12 RX+ ""Positive differential analog signal received from / the telephone line. Must be AC coupled with / 0.1 F."", 13 SNP+ "Positive differential snoop input", 14 SNP- "Negative differential snoop input", 15 RXF "Receive photodiode amplifier output", 16 RX "Receive photodiode summing junction", 17 VDDL "Power supply for line side, regulated from tip / and ring."", 18 RXS "Receive isolation amp summing junction", 19 RPB "Receive LED pre-bias current set", 20 BR- "Bridge rectifier return", 21 ZDC "Electronic inductor DCR/current limit", 22 DCS2 "DC feedback output", 23 DCS1 "V to I slope control", 24 NTF "Network amplifier feedback", 25 GAT "External MOSFET gate control", 26 NTS "Receive signal input", 27 BR- "Bridge rectifier return", 28 TXSL "Transmit photodiode summing junction", 29 ZNT "Receiver impedance set", 30 ZTX "Transmit transconductance gain set", 31 TXF "Transmit photodiode amplifier output", 32 REFL "1.25 VDC reference"

## DATA-64K
designator ?
pins: 1, 2, 3, 4, 5, 6, 7, 8, 9, 10, 11, 12, 13, 14, 15, 16, 17, 18, 19, 20, 21, 22, 23, 24, 25, 26, 27, 28, 29, 30, 31, 32, 33, 34, 35, 36, 37, 38, 39, 40, 41, 42, 43, 44, 45, 46, 47, 48, 49, 50, 51, 52, 53, 54, 55, 56, 57, 58, 59, 60, 61, 62, 63, 64, 65, 66, 67, 68, 69, 70, 71, 72, 73, 74, 75, 76, 77, 78, 79, 80, 81, 82, 83, 84, 85, 86, 87, 88, 89, 90, 91, 92, 93, 94, 95, 96, 97, 98, 99, 100

## DB9
designator U?
footprint DB9
pins: 1, 2, 3, 4, 5, 6, 7, 8, 9

## DB15
designator U?
footprint DB15
pins: 1, 2, 3, 4, 5, 6, 7, 8, 9, 10, 11, 12, 13, 14, 15

## DB15P
designator J?
footprint DB15PRA/F
pins: 1, 2, 3, 4, 5, 6, 7, 8, 9, 10, 11, 12, 13, 14, 15

## DB25
designator U?
footprint DB25
pins: 1, 2, 3, 4, 5, 6, 7, 8, 9, 10, 11, 12, 13, 14, 15, 16, 17, 18, 19, 20, 21, 22, 23, 24, 25

## DB37
designator U?
footprint DB37
pins: 1, 2, 3, 4, 5, 6, 7, 8, 9, 10, 11, 12, 13, 14, 15, 16, 17, 18, 19, 20, 21, 22, 23, 24, 25, 26, 27, 28, 29, 30, 31, 32, 33, 34, 35, 36, 37

## DC-DC
designator U?
footprint CPT-1224-05
footprint LI-ION-CHARGER
pins: 1 +IN, 2 - IN, 3 - OUT, 4 + OUT

## DC-to-DC 5V to +/-15V
designator *
footprint DC-DC515
pins: 1 VCC, 2 GND, 3 +15V, 4 GND, 5 -15V

## DCto+4.2V
designator U?
pins: 1 GND, 2 GND, 3 VCC, 4 VCC, 5 GND, 6 GND, 7 +4.2V, 8 +4.2V

## DDP3315C
designator ?
U?
footprint PQFP80
pins: 1 YUV6, 2 YUV7, 3 656EN, 4 LLC2, 5 HS, 6 VS, 7 FREQSEL, 8 CM1, 9 CM0, 10 VS2, 11 XTAL1, 12 XTAL2, 13 nc, 14 GNDP, 15 VSUPP, 16 FIFORRO, 17 FIFORD, 18 FIFOWR, 19 FIFORWR, 20 PWM1, 21 PWM2, 22 PWMV, 23 Hout, 24 VSTBY, 25 DFV8L, 26 H2SYNC, 27 V2SYNC, 28 nc, 29 ASG1, 30 HFLB, 31 SAFETY, 32 VPROT, 33 RSW2, 34 RSW1, 35 SENS, 36 GNDM, 37 VERT+, 38 VERT-, 39 EW, 40 nc, 41 SVM, 42 Rout, 43 Gout, 44 Bout, 45 GNDD, 46 XREF, 47 VSUPO, 48 VRD, 49 AGND, 50 FBLin1, 51 Rin1, 52 Gin1, 53 Bin1, 54 FBLin2, 55 Rin2, 56 Gin2, 57 Bin2, 58 ASG2, 59 ASG2, 60 nc, 61 TEST, 62 RES0, 63 SCL, 64 SDA, 65 C0, 66 C1, 67 C2, 68 C4, 69 C3, 70 C5, 71 C6, 72 C7, 73 VSUPD, 74 GNDD, 75 YUV0, 76 YUV1, 76 Y1, 77 YUV2, 78 YUV3, 79 YUV4, 80 YUV5

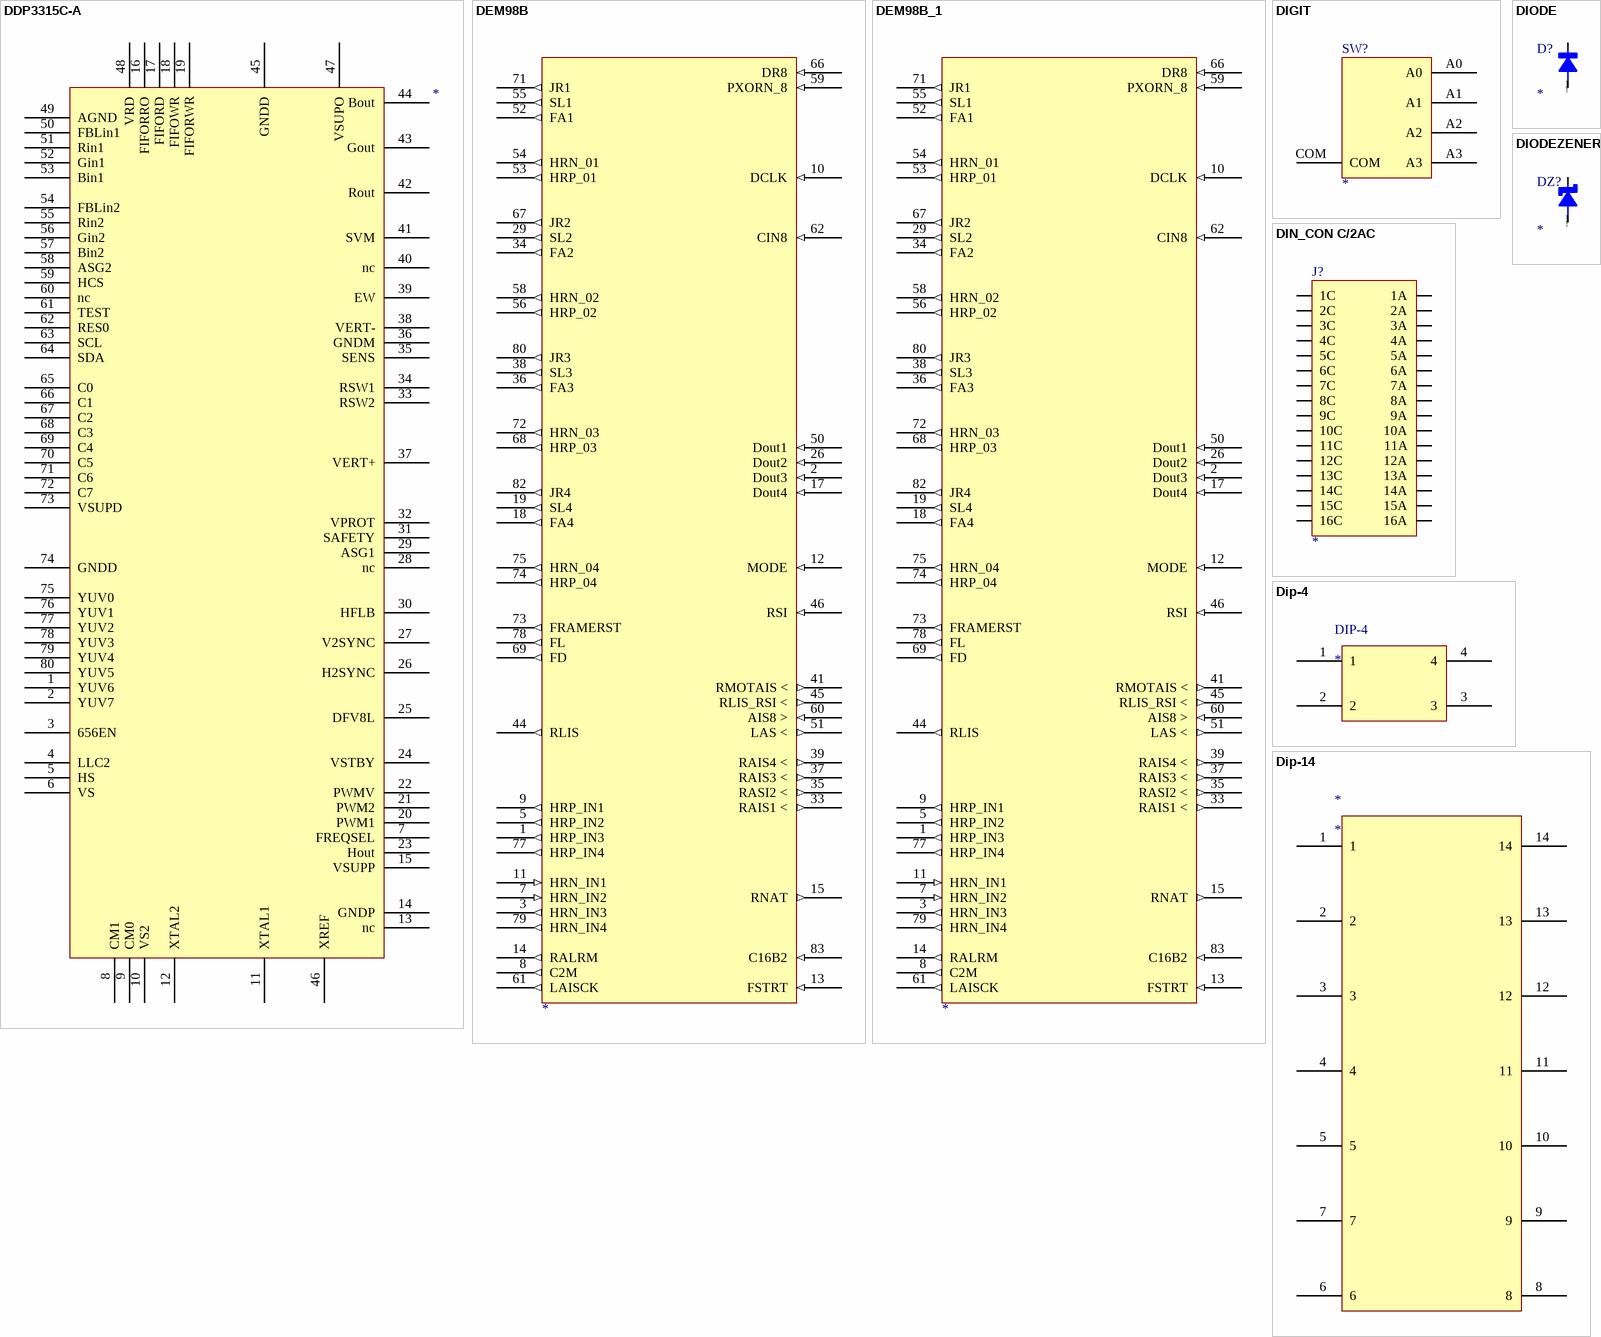
[diagram p22: symbols DDP3315C-A to Dip-14]

## DDP3315C-A
designator ?
U?
footprint PQFP80
pins: 1 YUV6, 2 YUV7, 3 656EN, 4 LLC2, 5 HS, 6 VS, 7 FREQSEL, 8 CM1, 9 CM0, 10 VS2, 11 XTAL1, 12 XTAL2, 13 nc, 14 GNDP, 15 VSUPP, 16 FIFORRO, 17 FIFORD, 18 FIFOWR, 19 FIFORWR, 20 PWM1, 21 PWM2, 22 PWMV, 23 Hout, 24 VSTBY, 25 DFV8L, 26 H2SYNC, 27 V2SYNC, 28 nc, 29 ASG1, 30 HFLB, 31 SAFETY, 32 VPROT, 33 RSW2, 34 RSW1, 35 SENS, 36 GNDM, 37 VERT+, 38 VERT-, 39 EW, 40 nc, 41 SVM, 42 Rout, 43 Gout, 44 Bout, 45 GNDD, 46 XREF, 47 VSUPO, 48 VRD, 49 AGND, 50 FBLin1, 51 Rin1, 52 Gin1, 53 Bin1, 54 FBLin2, 55 Rin2, 56 Gin2, 57 Bin2, 58 ASG2, 59 HCS, 60 nc, 61 TEST, 62 RES0, 63 SCL, 64 SDA, 65 C0, 66 C1, 67 C2, 68 C3, 69 C4, 70 C5, 71 C6, 72 C7, 73 VSUPD, 74 GNDD, 75 YUV0, 76 YUV1, 77 YUV2, 78 YUV3, 79 YUV4, 80 YUV5

## DEM98B
designator ?
pins: 1 HRP_IN3 (out), 2 Dout3 (in), 3 HRN_IN3 (out), 5 HRP_IN2 (out), 7 HRN_IN2 (in), 8 C2M (out), 9 HRP_IN1 (out), 10 DCLK (in), 11 HRN_IN1 (in), 12 MODE (in), 13 FSTRT (in), 14 RALRM (out), 15 RNAT (out), 17 Dout4 (in), 18 FA4 (out), 19 SL4 (out), 26 Dout2 (in), 29 SL2 (out), 33 RAIS1 < (out), 34 FA2 (out), 35 RASI2 < (out), 36 FA3 (out), 37 RAIS3 < (out), 38 SL3 (out), 39 RAIS4 < (out), 41 RMOTAIS < (out), 44 RLIS (out), 45 RLIS_RSI < (out), 46 RSI (in), 50 Dout1 (in), 51 LAS < (out), 52 FA1 (out), 53 HRP_01 (out), 54 HRN_01 (out), 55 SL1 (out), 56 HRP_02 (out), 58 HRN_02 (out), 59 PXORN_8 (in), 60 AIS8 > (in), 61 LAISCK (out), 62 CIN8 (in), 66 DR8 (in), 67 JR2 (out), 68 HRP_03 (out), 69 FD (out), 71 JR1 (out), 72 HRN_03 (out), 73 FRAMERST (out), 74 HRP_04 (out), 75 HRN_04 (out), 77 HRP_IN4 (out), 78 FL (out), 79 HRN_IN4 (out), 80 JR3 (out), 82 JR4 (out), 83 C16B2 (in)

## DEM98B_1
designator ?
pins: 1 HRP_IN3 (out), 2 Dout3 (in), 3 HRN_IN3 (out), 5 HRP_IN2 (out), 7 HRN_IN2 (in), 8 C2M (out), 9 HRP_IN1 (out), 10 DCLK (in), 11 HRN_IN1 (in), 12 MODE (in), 13 FSTRT (in), 14 RALRM (out), 15 RNAT (out), 17 Dout4 (in), 18 FA4 (out), 19 SL4 (out), 26 Dout2 (in), 29 SL2 (out), 33 RAIS1 < (out), 34 FA2 (out), 35 RASI2 < (out), 36 FA3 (out), 37 RAIS3 < (out), 38 SL3 (out), 39 RAIS4 < (out), 41 RMOTAIS < (out), 44 RLIS (out), 45 RLIS_RSI < (out), 46 RSI (in), 50 Dout1 (in), 51 LAS < (out), 52 FA1 (out), 53 HRP_01 (out), 54 HRN_01 (out), 55 SL1 (out), 56 HRP_02 (out), 58 HRN_02 (out), 59 PXORN_8 (in), 60 AIS8 > (in), 61 LAISCK (out), 62 CIN8 (in), 66 DR8 (in), 67 JR2 (out), 68 HRP_03 (out), 69 FD (out), 71 JR1 (out), 72 HRN_03 (out), 73 FRAMERST (out), 74 HRP_04 (out), 75 HRN_04 (out), 77 HRP_IN4 (out), 78 FL (out), 79 HRN_IN4 (out), 80 JR3 (out), 82 JR4 (out), 83 C16B2 (in)

## DIGIT
designator SW?
footprint FR01
pins: A0, A1, A2, A3, COM

## DIN_CON C/2AC
designator J?
footprint DIN32
footprint DIN32RA
pins: 1A, 1C, 2A, 2C, 3A, 3C, 4A, 4C, 5A, 5C, 6A, 6C, 7A, 7C, 8A, 8C, 9A, 9C, 10A, 10C, 11A, 11C, 12A, 12C, 13A, 13C, 14A, 14C, 15A, 15C, 16A, 16C

## DIODE
designator D?
footprint DIODE0.4
footprint DIODE0.3
footprint SMD-DIODE
pins: A, K
text: @DesignPCB

## DIODEZENER
designator DZ?
pins: A, K
text: @DesignPCB

## Dip-4
designator DIP-4
pins: 1, 2, 3, 4

## Dip-14
designator *
pins: 1, 2, 3, 4, 5, 6, 7, 8, 9, 10, 11, 12, 13, 14

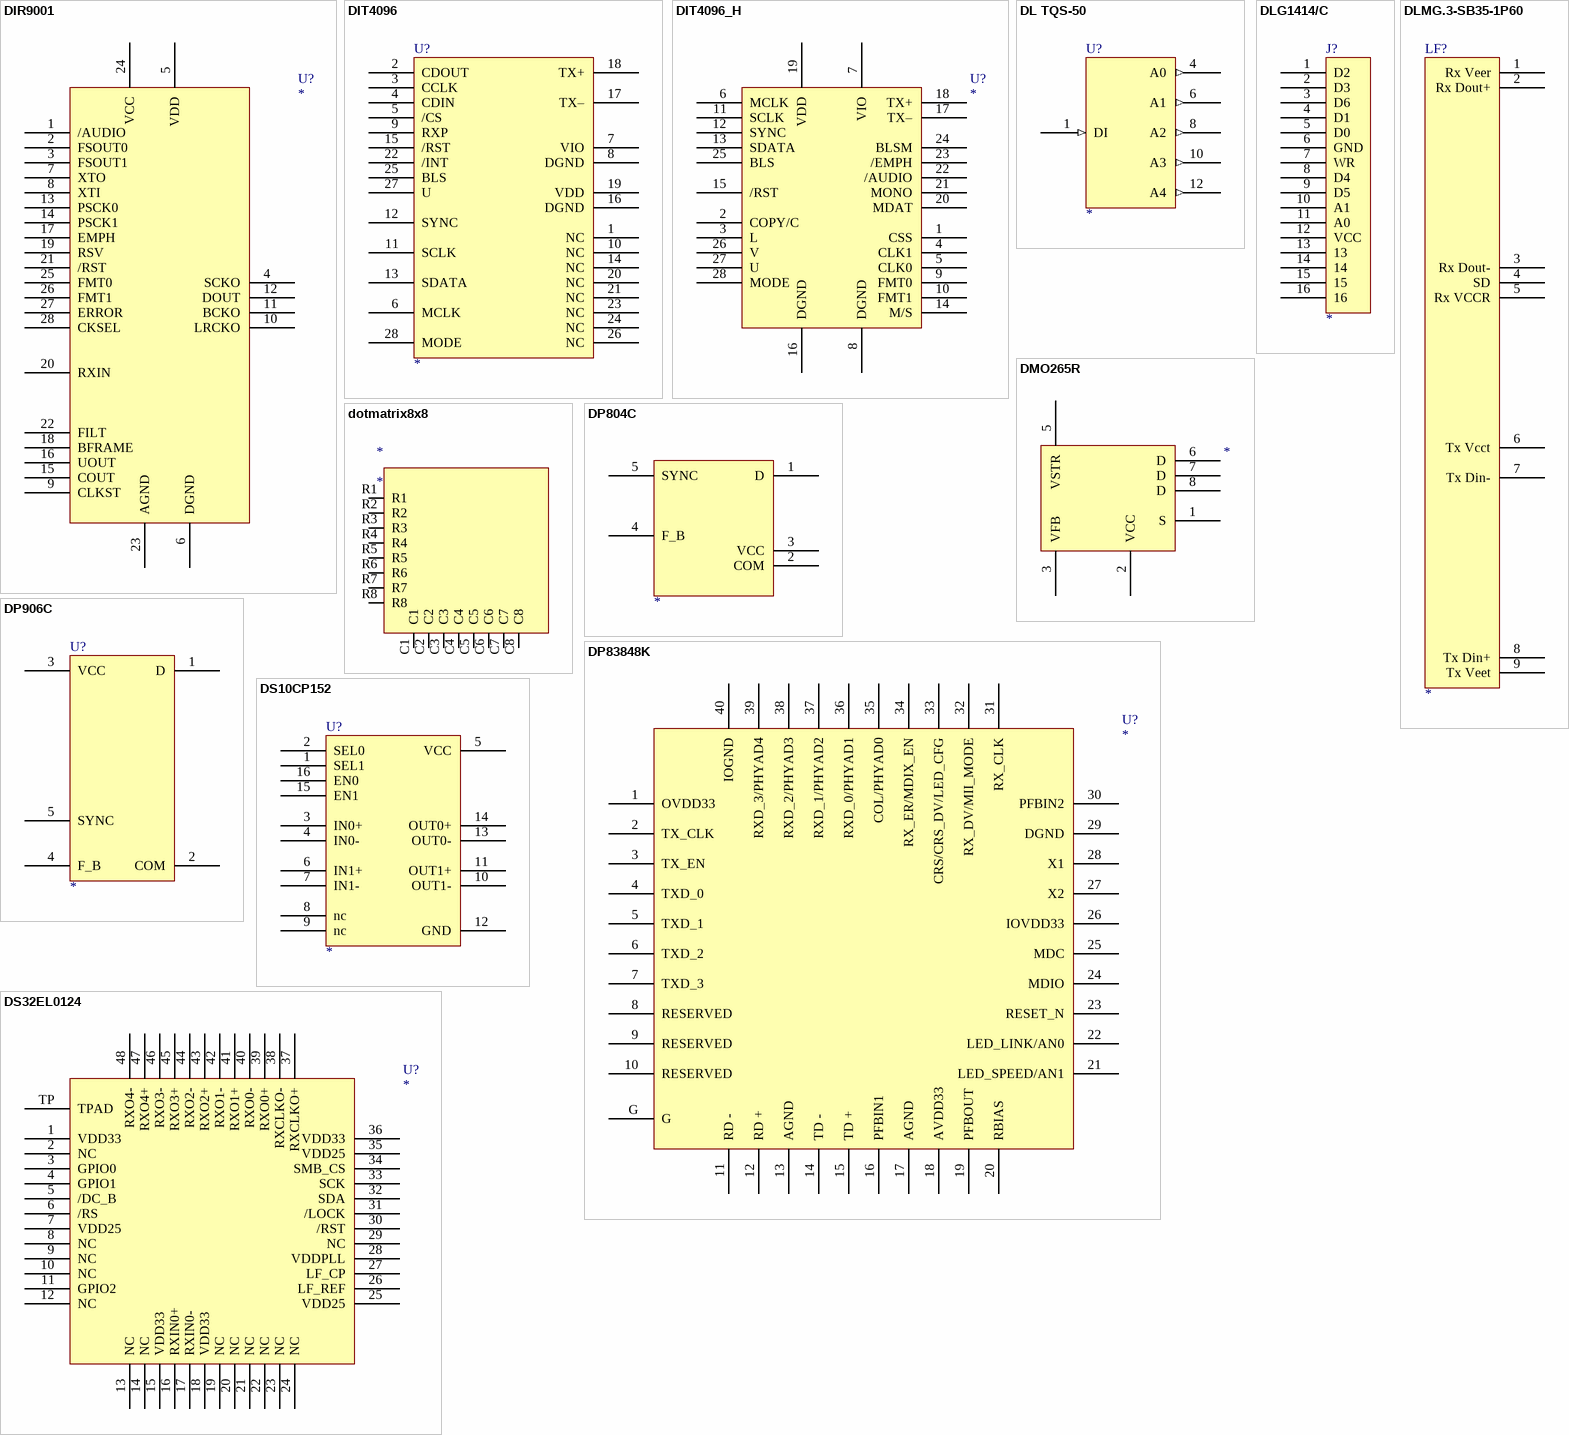
[diagram p23: symbols DIR9001 to DS32EL0124]

## DIR9001
designator U?
footprint SOP28
pins: 1 /AUDIO, 2 FSOUT0, 3 FSOUT1, 4 SCKO, 5 VDD, 6 DGND, 7 XTO, 8 XTI, 9 CLKST, 10 LRCKO, 11 BCKO, 12 DOUT, 13 PSCK0, 14 PSCK1, 15 COUT, 16 UOUT, 17 EMPH, 18 BFRAME, 19 RSV, 20 RXIN, 21 /RST, 22 FILT, 23 AGND, 24 VCC, 25 FMT0, 26 FMT1, 27 ERROR, 28 CKSEL

## DIT4096
designator U?
footprint SOP28
pins: 1 NC, 2 CDOUT, 3 CCLK, 4 CDIN, 5 /CS, 6 MCLK, 7 VIO, 8 DGND, 9 RXP, 10 NC, 11 SCLK, 12 SYNC, 13 SDATA, 14 NC, 15 /RST, 16 DGND, 17 TX–, 18 TX+, 19 VDD, 20 NC, 21 NC, 22 /INT, 23 NC, 24 NC, 25 BLS, 26 NC, 27 U, 28 MODE

## DIT4096_H
designator U?
footprint SOP28
pins: 1 CSS, 2 COPY/C, 3 L, 4 CLK1, 5 CLK0, 6 MCLK, 7 VIO, 8 DGND, 9 FMT0, 10 FMT1, 11 SCLK, 12 SYNC, 13 SDATA, 14 M/S, 15 /RST, 16 DGND, 17 TX–, 18 TX+, 19 VDD, 20 MDAT, 21 MONO, 22 /AUDIO, 23 /EMPH, 24 BLSM, 25 BLS, 26 V, 27 U, 28 MODE

## DL TQS-50
designator U?
pins: 1 DI (in), 4 A0 (out), 6 A1 (out), 7 GND (power) hidden to GND, 8 A2 (out), 10 A3 (out), 12 A4 (out), 14 VCC (power) hidden to VCC

## DLG1414/C
designator J?
pins: 1 D2, 2 D3, 3 D6, 4 D1, 5 D0, 6 GND, 7 WR, 8 D4, 9 D5, 10 A1, 11 A0, 12 VCC, 13, 14, 15, 16

## DLMG.3-SB35-1P60
designator LF?
footprint LTR01
pins: 1 Rx Veer, 2 Rx Dout+, 3 Rx Dout-, 4 SD, 5 Rx VCCR, 6 Tx Vcct, 7 Tx Din-, 8 Tx Din+, 9 Tx Veet

## DMO265R
designator ?
pins: 1 S, 2 VCC, 3 VFB, 5 VSTR, 6 D, 7 D, 8 D

## dotmatrix8x8
designator *
footprint LEDDOTMATRIX8X8
pins: C1, C2, C3, C4, C5, C6, C7, C8, R1, R2, R3, R4, R5, R6, R7, R8

## DP804C
designator ?
pins: 1 D, 2 COM, 3 VCC, 4 F_B, 5 SYNC

## DP906C
designator U?
pins: 1 D, 2 COM, 3 VCC, 4 F_B, 5 SYNC

## DP83848K
designator U?
footprint Q40
pins: 1 OVDD33, 2 TX_CLK, 3 TX_EN, 4 TXD_0, 5 TXD_1, 6 TXD_2, 7 TXD_3, 8 RESERVED, 9 RESERVED, 10 RESERVED, 11 RD -, 12 RD +, 13 AGND, 14 TD -, 15 TD +, 16 PFBIN1, 17 AGND, 18 AVDD33, 19 PFBOUT, 20 RBIAS, 21 LED_SPEED/AN1, 22 LED_LINK/AN0, 23 RESET_N, 24 MDIO, 25 MDC, 26 IOVDD33, 27 X2, 28 X1, 29 DGND, 30 PFBIN2, 31 RX_CLK, 32 RX_DV/MII_MODE, 33 CRS/CRS_DV/LED_CFG, 34 RX_ER/MDIX_EN, 35 COL/PHYAD0, 36 RXD_0/PHYAD1, 37 RXD_1/PHYAD2, 38 RXD_2/PHYAD3, 39 RXD_3/PHYAD4, 40 IOGND, G

## DS10CP152
designator U?
footprint SO-16
pins: 1 SEL1, 2 SEL0, 3 IN0+, 4 IN0-, 5 VCC, 6 IN1+, 7 IN1-, 8 nc, 9 nc, 10 OUT1-, 11 OUT1+, 12 GND, 13 OUT0-, 14 OUT0+, 15 EN1, 16 EN0

## DS32EL0124
designator U?
footprint LLP48
pins: 1 VDD33, 2 NC, 3 GPIO0, 4 GPIO1, 5 /DC_B, 6 /RS, 7 VDD25, 8 NC, 9 NC, 10 NC, 11 GPIO2, 12 NC, 13 NC, 14 NC, 15 VDD33, 16 RXIN0+, 17 RXIN0-, 18 VDD33, 19 NC, 20 NC, 21 NC, 22 NC, 23 NC, 24 NC, 25 VDD25, 26 LF_REF, 27 LF_CP, 28 VDDPLL, 29 NC, 30 /RST, 31 /LOCK, 32 SDA, 33 SCK, 34 SMB_CS, 35 VDD25, 36 VDD33, 37 RXCLKO+, 38 RXCLKO-, 39 RXO0+, 40 RXO0-, 41 RXO1+, 42 RXO1-, 43 RXO2+, 44 RXO2-, 45 RXO3+, 46 RXO3-, 47 RXO4+, 48 RXO4-, TP TPAD

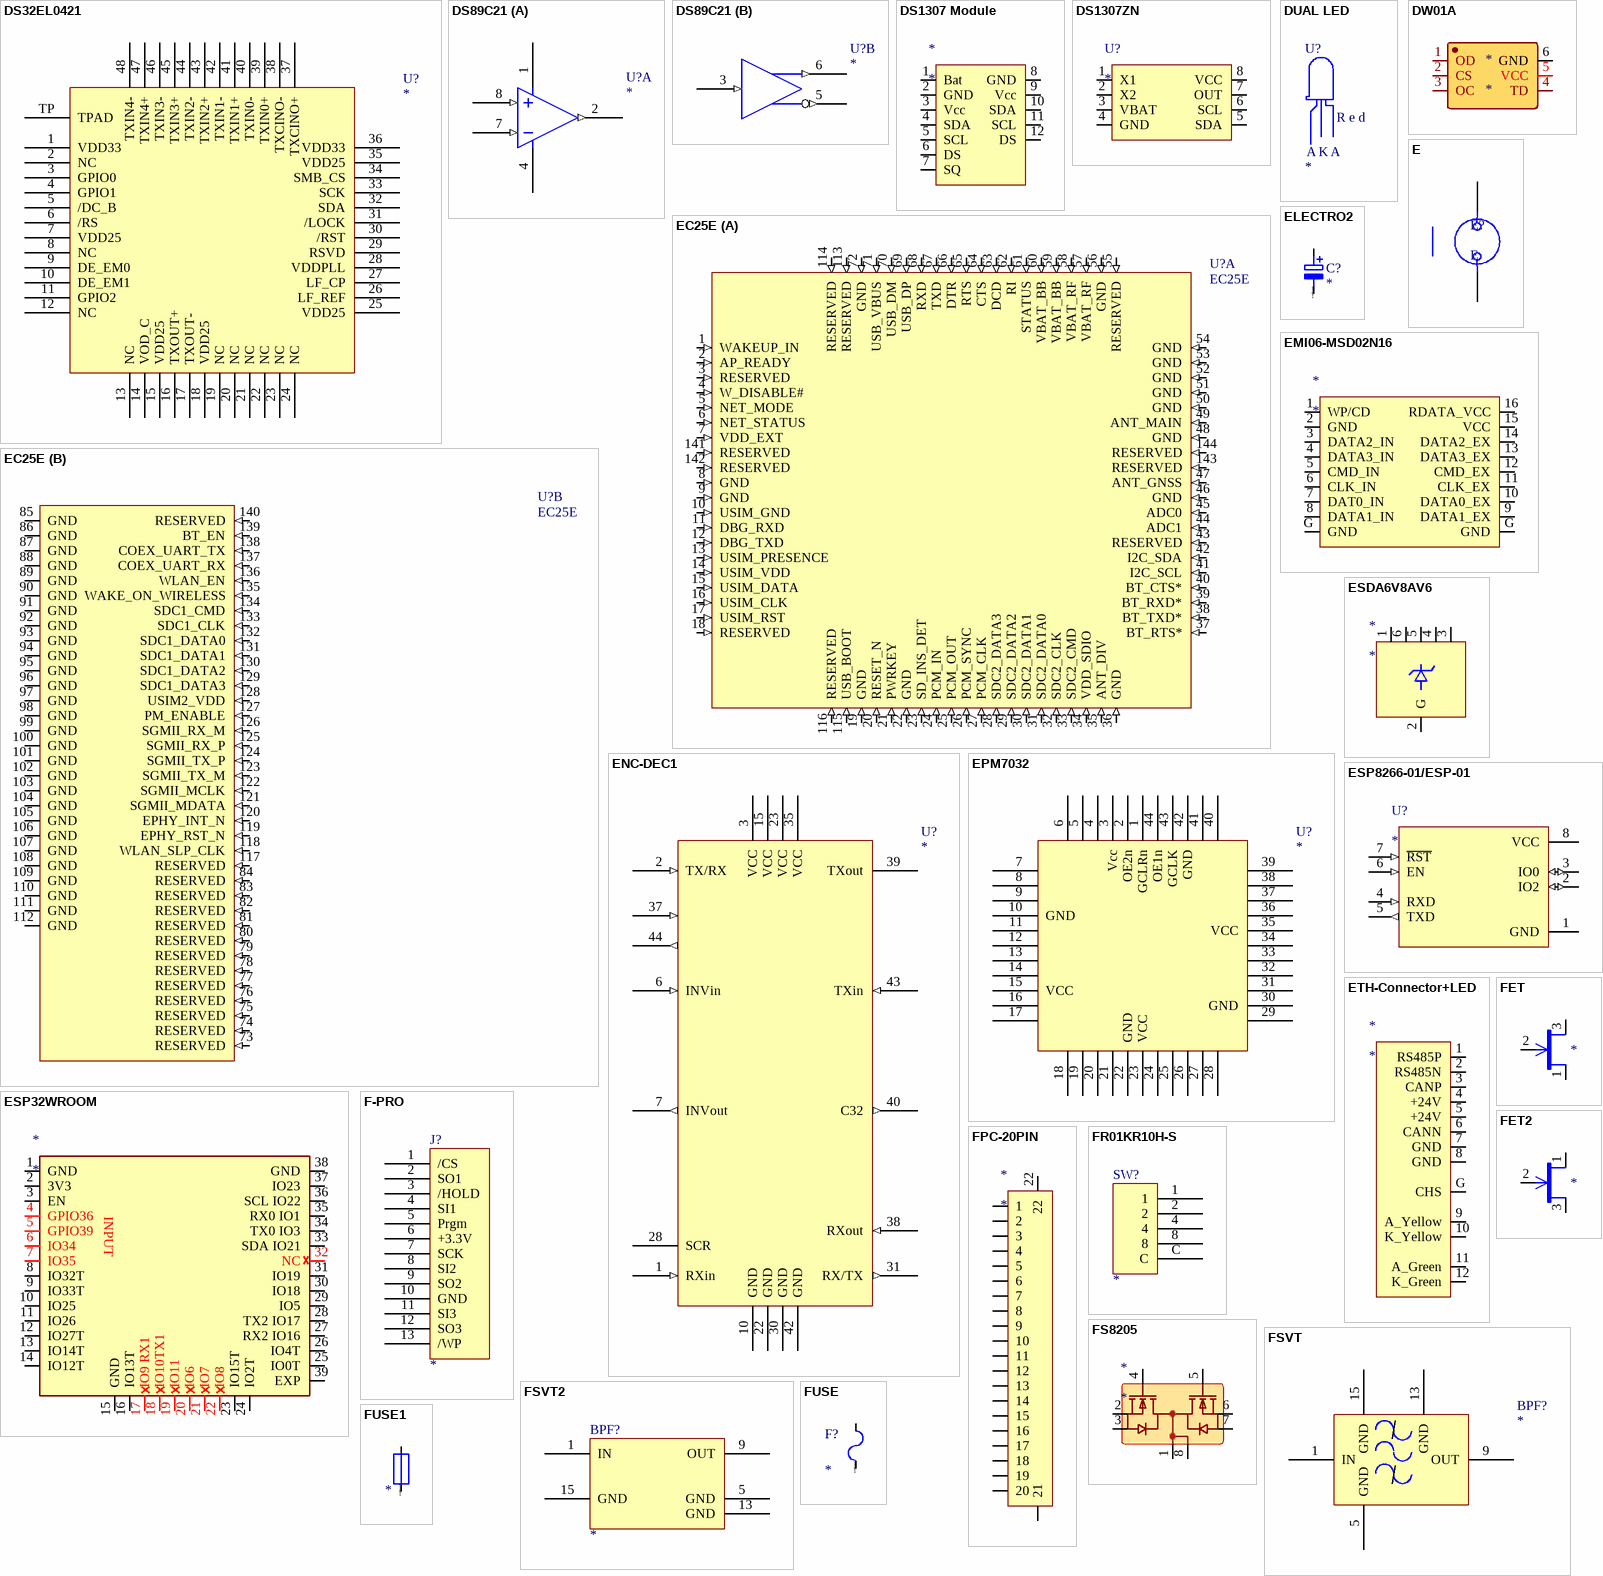
[diagram p24: symbols DS32EL0421 to FUSE1]

## DS32EL0421
designator U?
footprint LLP48
pins: 1 VDD33, 2 NC, 3 GPIO0, 4 GPIO1, 5 /DC_B, 6 /RS, 7 VDD25, 8 NC, 9 DE_EM0, 10 DE_EM1, 11 GPIO2, 12 NC, 13 NC, 14 VOD_C, 15 VDD25, 16 TXOUT+, 17 TXOUT-, 18 VDD25, 19 NC, 20 NC, 21 NC, 22 NC, 23 NC, 24 NC, 25 VDD25, 26 LF_REF, 27 LF_CP, 28 VDDPLL, 29 RSVD, 30 /RST, 31 /LOCK, 32 SDA, 33 SCK, 34 SMB_CS, 35 VDD25, 36 VDD33, 37 TXCINO+, 38 TXCINO-, 39 TXIN0+, 40 TXIN0-, 41 TXIN1+, 42 TXIN1-, 43 TXIN2+, 44 TXIN2-, 45 TXIN3+, 46 TXIN3-, 47 TXIN4+, 48 TXIN4-, TP TPAD

## DS89C21
designator U?
footprint SO-8
part A pins: 1 V+, 2 D1 (out), 4 V-, 7 Q2 (in), 8 Q1 (in)
part B pins: 3 Q1 (in), 5 D1 (out), 6 D1 (out)

## DS1307 Module
designator *
footprint DS1307Module (Footprint not found)
pins: 1 Bat, 2 GND, 3 Vcc, 4 SDA, 5 SCL, 6 DS, 7 SQ, 8 GND, 9 Vcc, 10 SDA, 11 SCL, 12 DS

## DS1307ZN
designator U?
footprint SO-8-B2
pins: 1 X1, 2 X2, 3 VBAT, 4 GND, 5 SDA, 6 SCL, 7 OUT, 8 VCC

## DUAL LED
designator U?
text: R e d; A; K

## DW01A
designator *
footprint SOT-23-6L
pins: 1 OD, 2 CS, 3 OC, 4 TD, 5 VCC, 6 GND

## E
designator E?
pins: 1, 2

## EC25E
designator U?
footprint EC25-E
part A pins: 1 WAKEUP_IN (in), 2 AP_READY (in), 3 RESERVED (in), 4 W_DISABLE# (in), 5 NET_MODE (in), 6 NET_STATUS (in), 7 VDD_EXT (in), 8 GND (in), 9 GND (in), 10 USIM_GND (in), 11 DBG_RXD (in), 12 DBG_TXD (in), 13 USIM_PRESENCE (in), 14 USIM_VDD (in), 15 USIM_DATA (in), 16 USIM_CLK (in), 17 USIM_RST (in), 18 RESERVED (in), 19 GND (in), 20 RESET_N (in), 21 PWRKEY (in), 22 GND (in), 23 SD_INS_DET (in), 24 PCM_IN (in), 25 PCM_OUT (in), 26 PCM_SYNC (in), 27 PCM_CLK (in), 28 SDC2_DATA3 (in), 29 SDC2_DATA2 (in), 30 SDC2_DATA1 (in), 31 SDC2_DATA0 (in), 32 SDC2_CLK (in), 33 SDC2_CMD (in), 34 VDD_SDIO (in), 35 ANT_DIV (in), 36 GND (in), 37 BT_RTS* (in), 38 BT_TXD* (in), 39 BT_RXD* (in), 40 BT_CTS* (in), 41 I2C_SCL (in), 42 I2C_SDA (in), 43 RESERVED (in), 44 ADC1 (in), 45 ADC0 (in), 46 GND (in), 47 ANT_GNSS (in), 48 GND (in), 49 ANT_MAIN (in), 50 GND (in), 51 GND (in), 52 GND (in), 53 GND (in), 54 GND (in), 55 RESERVED (in), 56 GND (in), 57 VBAT_RF (in), 58 VBAT_RF (in), 59 VBAT_BB (in), 60 VBAT_BB (in), 61 STATUS (in), 62 RI (in), 63 DCD (in), 64 CTS (in), 65 RTS (in), 66 DTR (in), 67 TXD (in), 68 RXD (in), 69 USB_DP (in), 70 USB_DM (in), 71 USB_VBUS (in), 72 GND (in), 113 RESERVED (in), 114 RESERVED (in), 115 USB_BOOT (in), 116 RESERVED (in), 141 RESERVED (in), 142 RESERVED (in), 143 RESERVED (in), 144 RESERVED (in)
part B pins: 73 RESERVED (in), 74 RESERVED (in), 75 RESERVED (in), 76 RESERVED (in), 77 RESERVED (in), 78 RESERVED (in), 79 RESERVED (in), 80 RESERVED (in), 81 RESERVED (in), 82 RESERVED (in), 83 RESERVED (in), 84 RESERVED (in), 85 GND (power), 86 GND (power), 87 GND (power), 88 GND (power), 89 GND (power), 90 GND (power), 91 GND (power), 92 GND (power), 93 GND (power), 94 GND (power), 95 GND (power), 96 GND (power), 97 GND (power), 98 GND (power), 99 GND (power), 100 GND (power), 101 GND (power), 102 GND (power), 103 GND (power), 104 GND (power), 105 GND (power), 106 GND (power), 107 GND (power), 108 GND (power), 109 GND (power), 110 GND (power), 111 GND (power), 112 GND (power), 117 RESERVED (in), 118 WLAN_SLP_CLK (in), 119 EPHY_RST_N (in), 120 EPHY_INT_N (in), 121 SGMII_MDATA (in), 122 SGMII_MCLK (in), 123 SGMII_TX_M (in), 124 SGMII_TX_P (in), 125 SGMII_RX_P (in), 126 SGMII_RX_M (in), 127 PM_ENABLE (in), 128 USIM2_VDD (in), 129 SDC1_DATA3 (in), 130 SDC1_DATA2 (in), 131 SDC1_DATA1 (in), 132 SDC1_DATA0 (in), 133 SDC1_CLK (in), 134 SDC1_CMD (in), 135 WAKE_ON_WIRELESS (in), 136 WLAN_EN (in), 137 COEX_UART_RX (in), 138 COEX_UART_TX (in), 139 BT_EN (in), 140 RESERVED (in)

## ELECTRO2
designator C?
footprint RB.1/.15A
footprint RB.1/.2
footprint RB.1/.25
footprint RB.1/.3
pins: 1, 2
text: @DesignPCB

## EMI06-MSD02N16
designator *
footprint QFN3.5x1.2-16L
pins: 1 WP/CD, 2 GND, 3 DATA2_IN, 4 DATA3_IN, 5 CMD_IN, 6 CLK_IN, 7 DAT0_IN, 8 DATA1_IN, 9 DATA1_EX, 10 DATA0_EX, 11 CLK_EX, 12 CMD_EX, 13 DATA3_EX, 14 DATA2_EX, 15 VCC, 16 RDATA_VCC, G GND, G GND

## ENC-DEC1
designator U?
pins: 1 RXin (in), 2 TX/RX (in), 3 VCC, 6 INVin (in), 7 INVout (out), 10 GND, 15 VCC, 22 GND, 23 VCC, 28 SCR, 30 GND, 31 RX/TX (out), 35 VCC, 37 (in), 38 RXout (in), 39 TXout, 40 C32 (out), 42 GND, 43 TXin (in), 44 (out)

## EPM7032
designator U?
footprint PGA44X8
pins: 1 GCLRn, 2 OE2n, 3 Vcc, 4, 5, 6, 7, 8, 9, 10 GND, 11, 12, 13, 14, 15 VCC, 16, 17, 18, 19, 20, 21, 22 GND, 23 VCC, 24, 25, 26, 27, 28, 29, 30 GND, 31, 32, 33, 34, 35 VCC, 36, 37, 38, 39, 40, 41, 42 GND, 43 GCLK, 44 OE1n

## ESDA6V8AV6
designator *
footprint SOT-563
pins: 1, 2 G, 3, 4, 5, 6

## ESP32WROOM
designator *
footprint ESP32-WROOM-32U
pins: 1 GND (hiz), 2 3V3 (hiz), 3 EN (hiz), 4 GPIO36 (hiz), 5 GPIO39 (hiz), 6 IO34 (hiz), 7 IO35 (hiz), 8 IO32T (hiz), 9 IO33T (hiz), 10 IO25 (hiz), 11 IO26 (hiz), 12 IO27T (hiz), 13 IO14T (hiz), 14 IO12T (hiz), 15 GND (hiz), 16 IO13T (hiz), 17 IO9 RX1 (hiz), 18 IO10TX1 (hiz), 19 IO11 (hiz), 20 IO6 (hiz), 21 IO7 (hiz), 22 IO8 (hiz), 23 IO15T (hiz), 24 IO2T (hiz), 25 IO0T (hiz), 26 IO4T (hiz), 27 RX2 IO16 (hiz), 28 TX2 IO17 (hiz), 29 IO5 (hiz), 30 IO18 (hiz), 31 IO19 (hiz), 32 NC (hiz), 33 SDA IO21 (hiz), 34 TX0 IO3 (hiz), 35 RX0 IO1 (hiz), 36 SCL IO22 (hiz), 37 IO23 (hiz), 38 GND (hiz), 39 EXP (hiz)
text: INPUT

## ESP8266-01/ESP-01
designator U?
MakerFocus 4pcs ESP8266 ESP-01 Serial Wireless WiFi Transceiver Receiver Module 1MB SPI Flash DC3.0-3.6V Internet of Things WiFi Module Board Compatible with Ar duino; MP: ESP8266-01/ESP-01; Value: *; Package: None; Availability: Unavailable; Price: None
footprint XCVR_ESP8266-01/ESP-01
pins: 1 GND (power), 2 IO2 (io), 3 IO0 (io), 4 RXD (in), 5 TXD (out), 6 EN (in), 7 ~{RST} (in), 8 VCC (power)

## ETH-Connector+LED
designator *
footprint RJ45+LED1 (Footprint not found)
pins: 1 RS485P, 2 RS485N, 3 CANP, 4 +24V, 5 +24V, 6 CANN, 7 GND, 8 GND, 9 A_Yellow, 10 K_Yellow, 11 A_Green, 12 K_Green, G CHS

## F-PRO
designator J?
footprint CON13/CON
pins: 1 /CS, 2 SO1, 3 /HOLD, 4 SI1, 5 Prgm, 6 +3.3V, 7 SCK, 8 SI2, 9 SO2, 10 GND, 11 SI3, 12 SO3, 13 /WP

## FET
designator ?
pins: 1, 2, 3

## FET2
designator ?
pins: 1, 2, 3

## FPC-20PIN
designator *
footprint FPC_0.5MM _20PIN
pins: 1, 2, 3, 4, 5, 6, 7, 8, 9, 10, 11, 12, 13, 14, 15, 16, 17, 18, 19, 20, 21, 22

## FR01KR10H-S
designator SW?
pins: 1, 2, 4, 8, C

## FS8205
designator *
footprint TSSOP8
pins: 1 D12, 2 S1, 3 S1, 4 G1, 5 G2, 6 S2, 7 S2, 8 D12

## FSVT
designator BPF?
footprint BPF1
pins: 1 IN, 5 GND, 9 OUT, 13 GND, 15 GND

## FSVT2
designator BPF?
footprint BPF2
footprint BPF1
pins: 1 IN, 5 GND, 9 OUT, 13 GND, 15 GND

## FUSE
designator F?
footprint FUSE4
footprint FUSE3
pins: 1, 2
text: @DesignPCB

## FUSE1
designator ?
pins: 1, 2
text: @DesignPCB

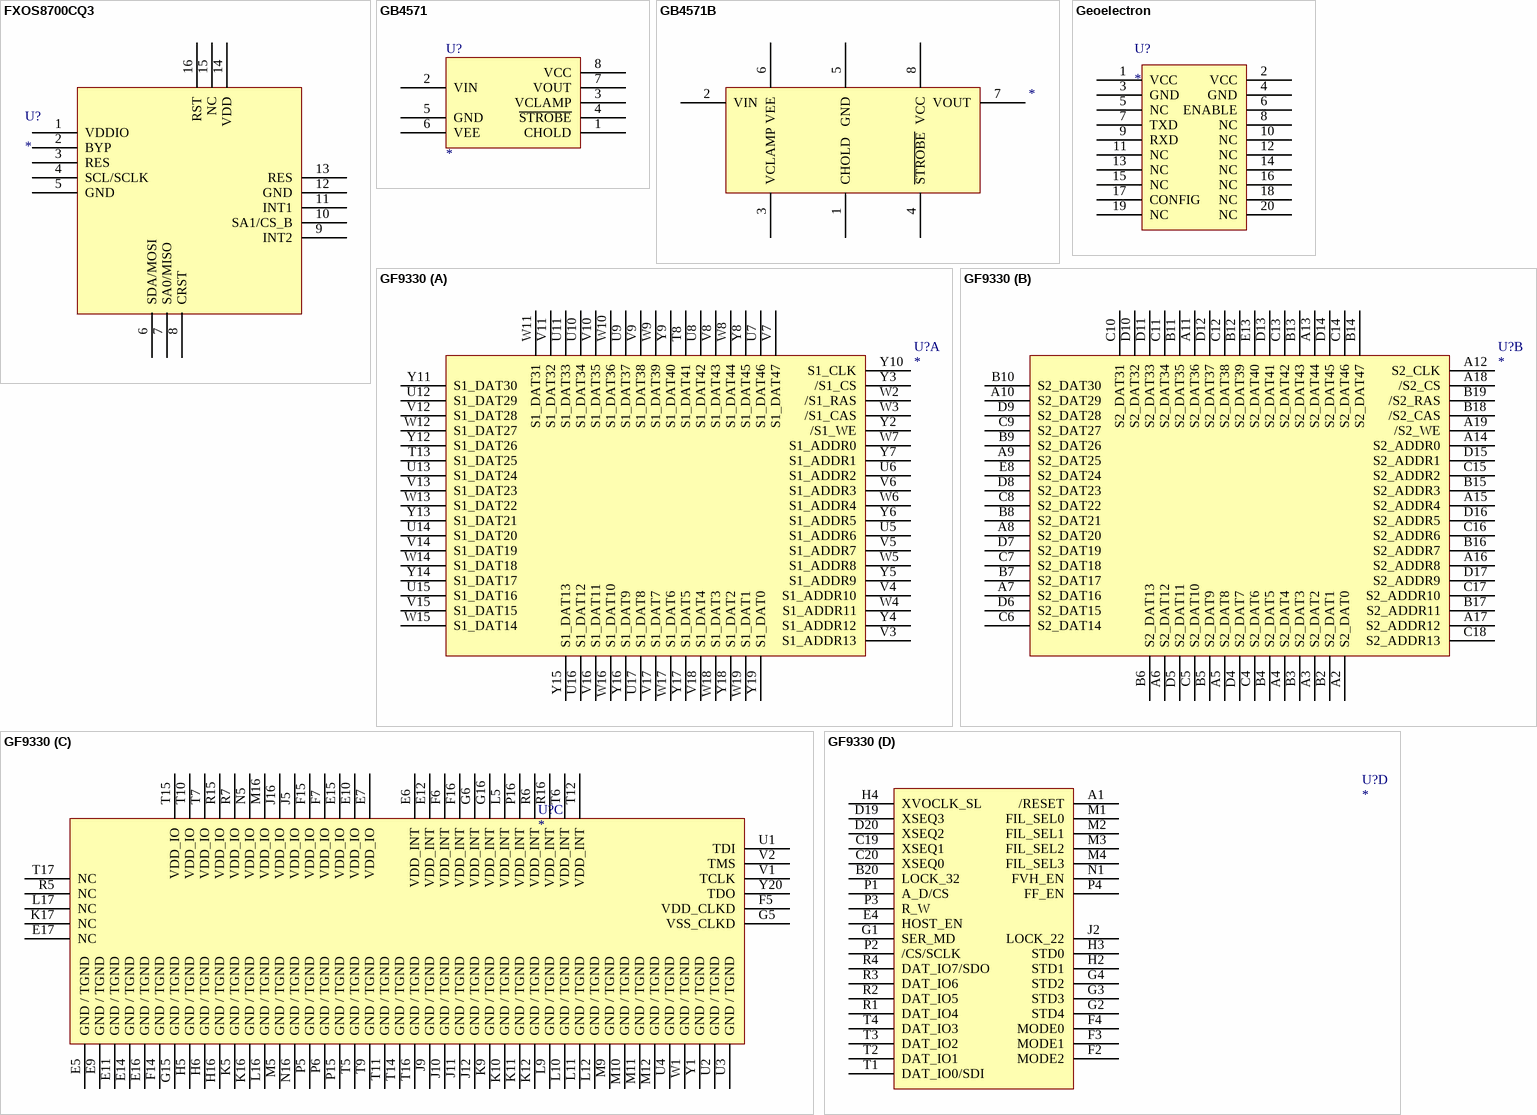
[diagram p25: symbols FXOS8700CQ3 to GF9330]

## FXOS8700CQ3
designator U?
footprint LGA16 (QFN, 16-Leads, Body 3/00x3/00mm, Pitch 0/50mm, Thermal Pad 1/00x1/00mm, IPC Medium Density)
pins: 1 VDDIO, 2 BYP, 3 RES, 4 SCL/SCLK, 5 GND, 6 SDA/MOSI, 7 SA0/MISO, 8 CRST, 9 INT2, 10 SA1/CS_B, 11 INT1, 12 GND, 13 RES, 14 VDD, 15 NC, 16 RST

## GB4571
designator U?
footprint SO-8
pins: 1 CHOLD, 2 VIN, 3 VCLAMP, 4 ~{STROBE}, 5 GND, 6 VEE, 7 VOUT, 8 VCC

## GB4571B
designator ?
pins: 1 CHOLD, 2 VIN, 3 VCLAMP, 4 ~{STROBE}, 5 GND, 6 VEE, 7 VOUT, 8 VCC

## Geoelectron
designator U?
footprint GeoElectronTRM101
pins: 1 VCC, 2 VCC, 3 GND, 4 GND, 5 NC, 6 ENABLE, 7 TXD, 8 NC, 9 RXD, 10 NC, 11 NC, 12 NC, 13 NC, 14 NC, 15 NC, 16 NC, 17 CONFIG, 18 NC, 19 NC, 20 NC

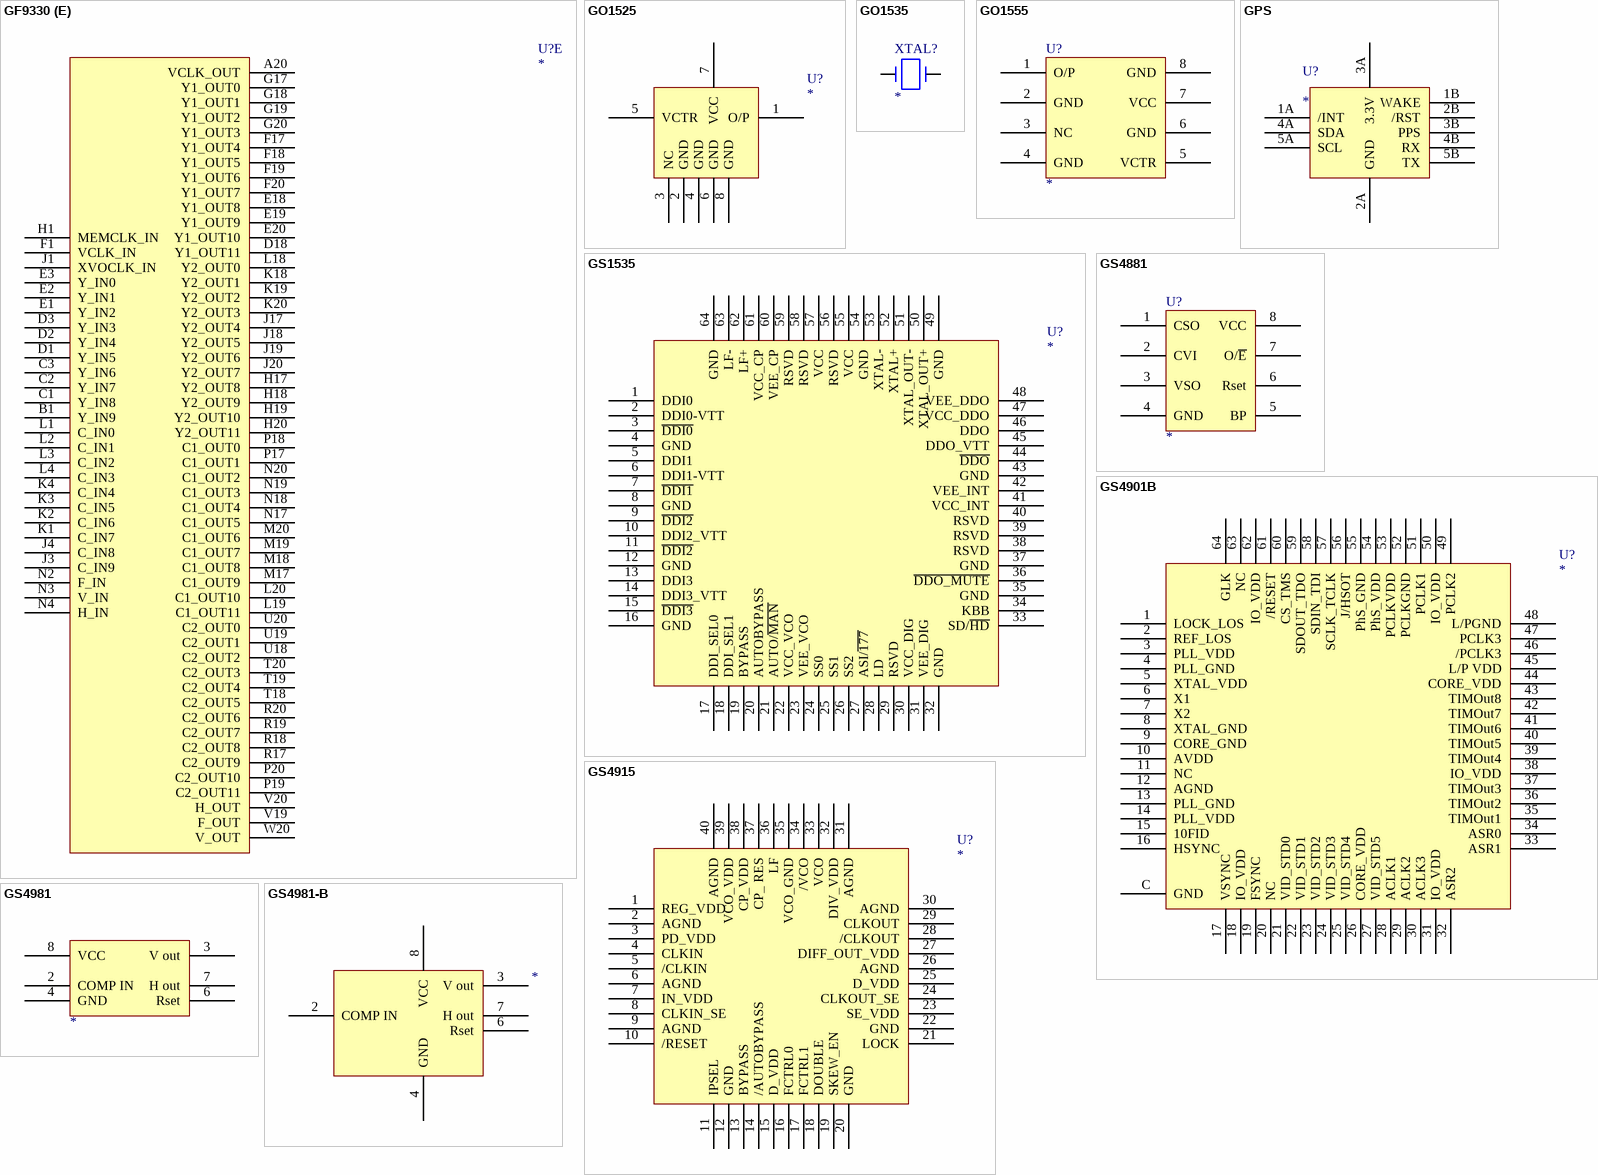
[diagram p26: symbols GF9330 to GS4981-B]

## GF9330
designator U?
footprint BGA320X20
part A pins: T8 S1_DAT41, T13 S1_DAT25, U5 S1_ADDR6, U6 S1_ADDR2, U7 S1_DAT46, U8 S1_DAT42, U9 S1_DAT37, U10 S1_DAT34, U11 S1_DAT33, U12 S1_DAT29, U13 S1_DAT24, U14 S1_DAT20, U15 S1_DAT16, U16 S1_DAT12, U17 S1_DAT8, V3 S1_ADDR13, V4 S1_ADDR10, V5 S1_ADDR7, V6 S1_ADDR3, V7 S1_DAT47, V8 S1_DAT43, V9 S1_DAT38, V10 S1_DAT35, V11 S1_DAT32, V12 S1_DAT28, V13 S1_DAT23, V14 S1_DAT19, V15 S1_DAT15, V16 S1_DAT11, V17 S1_DAT7, V18 S1_DAT4, W2 /S1_RAS, W3 /S1_CAS, W4 S1_ADDR11, W5 S1_ADDR8, W6 S1_ADDR4, W7 S1_ADDR0, W8 S1_DAT44, W9 S1_DAT39, W10 S1_DAT36, W11 S1_DAT31, W12 S1_DAT27, W13 S1_DAT22, W14 S1_DAT18, W15 S1_DAT14, W16 S1_DAT10, W17 S1_DAT6, W18 S1_DAT3, W19 S1_DAT1, Y2 /S1_WE, Y3 /S1_CS, Y4 S1_ADDR12, Y5 S1_ADDR9, Y6 S1_ADDR5, Y7 S1_ADDR1, Y8 S1_DAT45, Y9 S1_DAT40, Y10 S1_CLK, Y11 S1_DAT30, Y12 S1_DAT26, Y13 S1_DAT21, Y14 S1_DAT17, Y15 S1_DAT13, Y16 S1_DAT9, Y17 S1_DAT5, Y18 S1_DAT2, Y19 S1_DAT0
part B pins: A2 S2_DAT0, A3 S2_DAT2, A4 S2_DAT4, A5 S2_DAT8, A6 S2_DAT12, A7 S2_DAT16, A8 S2_DAT20, A9 S2_DAT25, A10 S2_DAT29, A11 S2_DAT36, A12 S2_CLK, A13 S2_DAT44, A14 S2_ADDR0, A15 S2_ADDR4, A16 S2_ADDR8, A17 S2_ADDR12, A18 /S2_CS, A19 /S2_WE, B2 S2_DAT1, B3 S2_DAT3, B4 S2_DAT5, B5 S2_DAT9, B6 S2_DAT13, B7 S2_DAT17, B8 S2_DAT21, B9 S2_DAT26, B10 S2_DAT30, B11 S2_DAT35, B12 S2_DAT39, B13 S2_DAT43, B14 S2_DAT47, B15 S2_ADDR3, B16 S2_ADDR7, B17 S2_ADDR11, B18 /S2_CAS, B19 /S2_RAS, C4 S2_DAT6, C5 S2_DAT10, C6 S2_DAT14, C7 S2_DAT18, C8 S2_DAT22, C9 S2_DAT27, C10 S2_DAT31, C11 S2_DAT34, C12 S2_DAT38, C13 S2_DAT42, C14 S2_DAT46, C15 S2_ADDR2, C16 S2_ADDR6, C17 S2_ADDR10, C18 S2_ADDR13, D4 S2_DAT7, D5 S2_DAT11, D6 S2_DAT15, D7 S2_DAT19, D8 S2_DAT23, D9 S2_DAT28, D10 S2_DAT32, D11 S2_DAT33, D12 S2_DAT37, D13 S2_DAT41, D14 S2_DAT45, D15 S2_ADDR1, D16 S2_ADDR5, D17 S2_ADDR9, E8 S2_DAT24, E13 S2_DAT40
part C pins: E5 GND / TGND, E6 VDD_INT, E7 VDD_IO, E9 GND / TGND, E10 VDD_IO, E11 GND / TGND, E12 VDD_INT, E14 GND / TGND, E15 VDD_IO, E16 GND / TGND, E17 NC, F5 VDD_CLKD, F6 VDD_INT, F7 VDD_IO, F14 GND / TGND, F15 VDD_IO, F16 VDD_INT, G5 VSS_CLKD, G6 VDD_INT, G15 GND / TGND, G16 VDD_INT, H5 GND / TGND, H6 GND / TGND, H16 GND / TGND, J5 VDD_IO, J9 GND / TGND, J10 GND / TGND, J11 GND / TGND, J12 GND / TGND, J16 VDD_IO, K5 GND / TGND, K9 GND / TGND, K10 GND / TGND, K11 GND / TGND, K12 GND / TGND, K16 GND / TGND, K17 NC, L5 VDD_INT, L9 GND / TGND, L10 GND / TGND, L11 GND / TGND, L12 GND / TGND, L16 GND / TGND, L17 NC, M5 GND / TGND, M9 GND / TGND, M10 GND / TGND, M11 GND / TGND, M12 GND / TGND, M16 VDD_IO, N5 VDD_IO, N16 GND / TGND, P5 GND / TGND, P6 GND / TGND, P15 GND / TGND, P16 VDD_INT, R5 NC, R6 VDD_INT, R7 VDD_IO, R15 VDD_IO, R16 VDD_INT, T5 GND / TGND, T6 VDD_INT, T7 VDD_IO, T9 GND / TGND, T10 VDD_IO, T11 GND / TGND, T12 VDD_INT, T14 GND / TGND, T15 VDD_IO, T16 GND / TGND, T17 NC, U1 TDI, U2 GND / TGND, U3 GND / TGND, U4 GND / TGND, V1 TCLK, V2 TMS, W1 GND / TGND, Y1 GND / TGND, Y20 TDO
part D pins: A1 /RESET, B20 LOCK_32, C19 XSEQ1, C20 XSEQ0, D19 XSEQ3, D20 XSEQ2, E4 HOST_EN, F2 MODE2, F3 MODE1, F4 MODE0, G1 SER_MD, G2 STD4, G3 STD3, G4 STD2, H2 STD1, H3 STD0, H4 XVOCLK_SL, J2 LOCK_22, M1 FIL_SEL0, M2 FIL_SEL1, M3 FIL_SEL2, M4 FIL_SEL3, N1 FVH_EN, P1 A_D/CS, P2 /CS/SCLK, P3 R_W, P4 FF_EN, R1 DAT_IO4, R2 DAT_IO5, R3 DAT_IO6, R4 DAT_IO7/SDO, T1 DAT_IO0/SDI, T2 DAT_IO1, T3 DAT_IO2, T4 DAT_IO3
part E pins: A20 VCLK_OUT, B1 Y_IN9, C1 Y_IN8, C2 Y_IN7, C3 Y_IN6, D1 Y_IN5, D2 Y_IN4, D3 Y_IN3, D18 Y1_OUT11, E1 Y_IN2, E2 Y_IN1, E3 Y_IN0, E18 Y1_OUT8, E19 Y1_OUT9, E20 Y1_OUT10, F1 VCLK_IN, F17 Y1_OUT4, F18 Y1_OUT5, F19 Y1_OUT6, F20 Y1_OUT7, G17 Y1_OUT0, G18 Y1_OUT1, G19 Y1_OUT2, G20 Y1_OUT3, H1 MEMCLK_IN, H17 Y2_OUT8, H18 Y2_OUT9, H19 Y2_OUT10, H20 Y2_OUT11, J1 XVOCLK_IN, J3 C_IN9, J4 C_IN8, J17 Y2_OUT4, J18 Y2_OUT5, J19 Y2_OUT6, J20 Y2_OUT7, K1 C_IN7, K2 C_IN6, K3 C_IN5, K4 C_IN4, K18 Y2_OUT1, K19 Y2_OUT2, K20 Y2_OUT3, L1 C_IN0, L2 C_IN1, L3 C_IN2, L4 C_IN3, L18 Y2_OUT0, L19 C1_OUT11, L20 C1_OUT10, M17 C1_OUT9, M18 C1_OUT8, M19 C1_OUT7, M20 C1_OUT6, N2 F_IN, N3 V_IN, N4 H_IN, N17 C1_OUT5, N18 C1_OUT4, N19 C1_OUT3, N20 C1_OUT2, P17 C1_OUT1, P18 C1_OUT0, P19 C2_OUT11, P20 C2_OUT10, R17 C2_OUT9, R18 C2_OUT8, R19 C2_OUT7, R20 C2_OUT6, T18 C2_OUT5, T19 C2_OUT4, T20 C2_OUT3, U18 C2_OUT2, U19 C2_OUT1, U20 C2_OUT0, V19 F_OUT, V20 H_OUT, W20 V_OUT

## GO1525
designator U?
footprint TOR-8
pins: 1 O/P, 2 GND, 3 NC, 4 GND, 5 VCTR, 6 GND, 7 VCC, 8 GND

## GO1535
designator XTAL?
footprint GO4
pins: 1, 3

## GO1555
designator U?
footprint PSML8
pins: 1 O/P, 2 GND, 3 NC, 4 GND, 5 VCTR, 6 GND, 7 VCC, 8 GND

## GPS
designator U?
footprint GPS-QWIIC
pins: 1A /INT, 1B WAKE, 2A GND, 2B /RST, 3A 3.3V, 3B PPS, 4A SDA, 4B RX, 5A SCL, 5B TX

## GS1535
designator U?
footprint ST-64B
pins: 1 DDI0, 2 DDI0-VTT, 3 ~{DDI0}, 4 GND, 5 DDI1, 6 DDI1-VTT, 7 ~{DDI1}, 8 GND, 9 ~{DDI2}, 10 DDI2_VTT, 11 ~{DDI2}, 12 GND, 13 DDI3, 14 DDI3_VTT, 15 ~{DDI3}, 16 GND, 17 DDI_SEL0, 18 DDI_SEL1, 19 BYPASS, 20 AUTOBYPASS, 21 AUTO/~{MAN}, 22 VCC_VCO, 23 VEE_VCO, 24 SS0, 25 SS1, 26 SS2, 27 ASI/~{177}, 28 LD, 29 RSVD, 30 VCC_DIG, 31 VEE_DIG, 32 GND, 33 SD/~{HD}, 34 KBB, 35 GND, 36 ~{DDO_MUTE}, 37 GND, 38 RSVD, 39 RSVD, 40 RSVD, 41 VCC_INT, 42 VEE_INT, 43 GND, 44 ~{DDO}, 45 DDO_VTT, 46 DDO, 47 VCC_DDO, 48 VEE_DDO, 49 GND, 50 XTAL_OUT+, 51 XTAL_OUT-, 52 XTAL+, 53 XTAL-, 54 GND, 55 VCC, 56 RSVD, 57 VCC, 58 RSVD, 59 RSVD, 60 VEE_CP, 61 VCC_CP, 62 LF+, 63 LF-, 64 GND

## GS4881
designator U?
footprint DIP8
pins: 1 CSO, 2 CVI, 3 VSO, 4 GND, 5 BP, 6 Rset, 7 O/~{E}, 8 VCC

## GS4901B
designator U?
footprint QFN64
pins: 1 LOCK_LOS, 2 REF_LOS, 3 PLL_VDD, 4 PLL_GND, 5 XTAL_VDD, 6 X1, 7 X2, 8 XTAL_GND, 9 CORE_GND, 10 AVDD, 11 NC, 12 AGND, 13 PLL_GND, 14 PLL_VDD, 15 10FID, 16 HSYNC, 17 VSYNC, 18 IO_VDD, 19 FSYNC, 20 NC, 21 VID_STD0, 22 VID_STD1, 23 VID_STD2, 24 VID_STD3, 25 VID_STD4, 26 CORE_VDD, 27 VID_STD5, 28 ACLK1, 29 ACLK2, 30 ACLK3, 31 IO_VDD, 32 ASR2, 33 ASR1, 34 ASR0, 35 TIMOut1, 36 TIMOut2, 37 TIMOut3, 38 IO_VDD, 39 TIMOut4, 40 TIMOut5, 41 TIMOut6, 42 TIMOut7, 43 TIMOut8, 44 CORE_VDD, 45 L/P VDD, 46 /PCLK3, 47 PCLK3, 48 L/PGND, 49 PCLK2, 50 IO_VDD, 51 PCLK1, 52 PCLKGND, 53 PCLKVDD, 54 PhS_VDD, 55 PhS_GND, 56 J/HSOT, 57 SCLK_TCLK, 58 SDIN_TDI, 59 SDOUT_TDO, 60 CS_TMS, 61 /RESET, 62 IO_VDD, 63 NC, 64 GLK, C GND

## GS4915
designator U?
footprint QFN40
pins: 1 REG_VDD, 2 AGND, 3 PD_VDD, 4 CLKIN, 5 /CLKIN, 6 AGND, 7 IN_VDD, 8 CLKIN_SE, 9 AGND, 10 /RESET, 11 IPSEL, 12 GND, 13 BYPASS, 14 /AUTOBYPASS, 15 D_VDD, 16 FCTRL0, 17 FCTRL1, 18 DOUBLE, 19 SKEW_EN, 20 GND, 21 LOCK, 22 GND, 23 SE_VDD, 24 CLKOUT_SE, 25 D_VDD, 26 AGND, 27 DIFF_OUT_VDD, 28 /CLKOUT, 29 CLKOUT, 30 AGND, 31 AGND, 32 DIV_VDD, 33 VCO, 34 /VCO, 35 VCO_GND, 36 LF, 37 CP_ RES, 38 CP_VDD, 39 VCO_VDD, 40 AGND

## GS4981
designator ?
pins: 2 COMP IN, 3 V out, 4 GND, 6 Rset, 7 H out, 8 VCC

## GS4981-B
designator ?
pins: 2 COMP IN, 3 V out, 4 GND, 6 Rset, 7 H out, 8 VCC

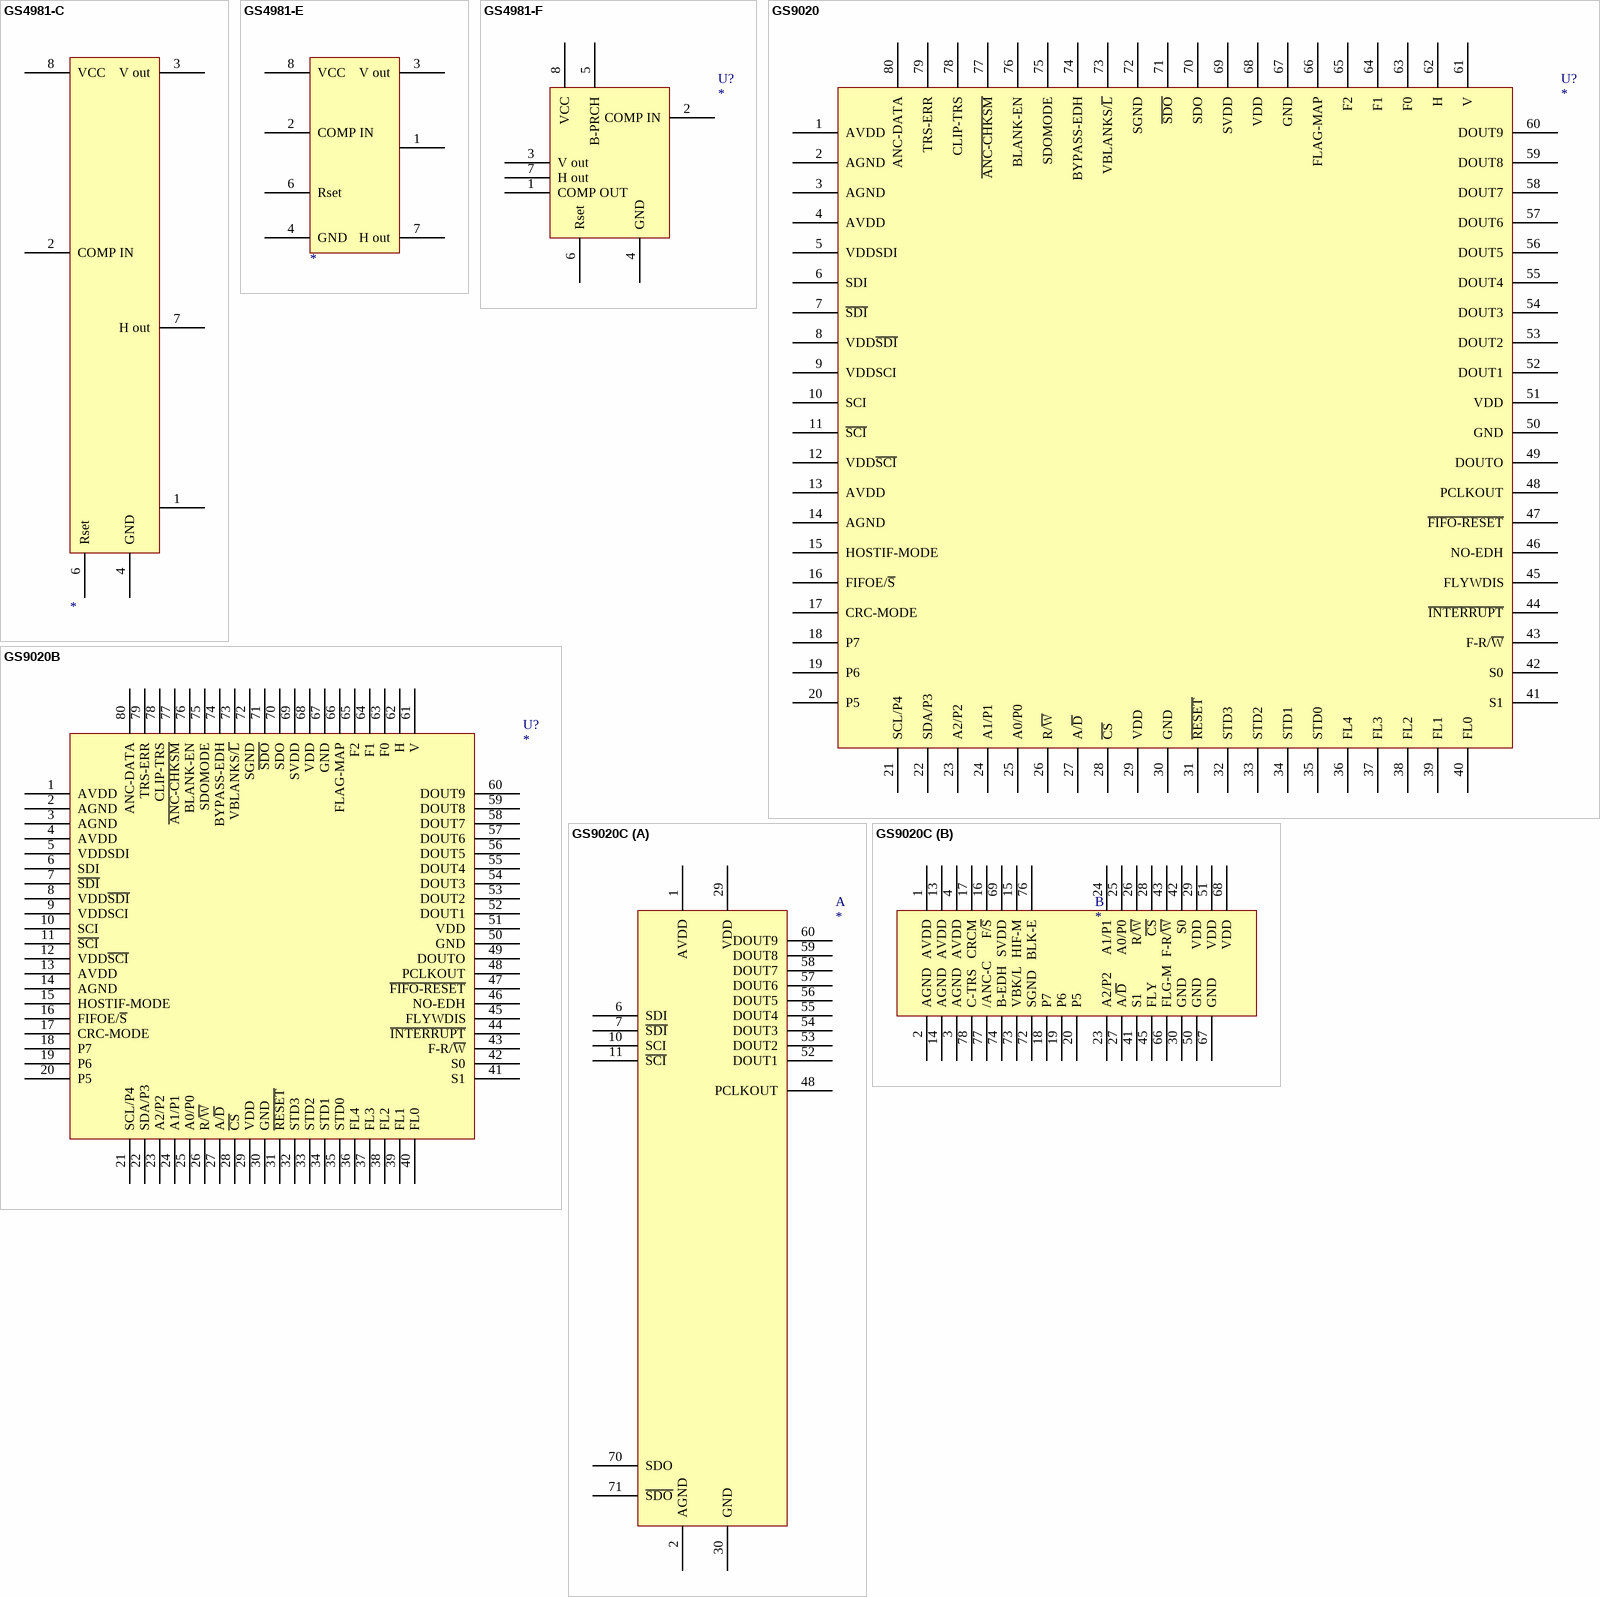
[diagram p27: symbols GS4981-C to GS9020C]

## GS4981-C
designator ?
pins: 1, 2 COMP IN, 3 V out, 4 GND, 6 Rset, 7 H out, 8 VCC

## GS4981-E
designator ?
pins: 1, 2 COMP IN, 3 V out, 4 GND, 6 Rset, 7 H out, 8 VCC

## GS4981-F
designator U?
pins: 1 COMP OUT, 2 COMP IN, 3 V out, 4 GND, 5 B-PRCH, 6 Rset, 7 H out, 8 VCC

## GS9020
designator U?
footprint TQFP80-A
pins: 1 AVDD (power), 2 AGND (power), 3 AGND (power), 4 AVDD (power), 5 VDDSDI, 6 SDI, 7 ~{SDI}, 8 VDD~{SDI}, 9 VDDSCI, 10 SCI, 11 ~{SCI}, 12 VDD~{SCI}, 13 AVDD (power), 14 AGND (power), 15 HOSTIF-MODE, 16 FIFOE/~{S}, 17 CRC-MODE, 18 P7, 19 P6, 20 P5, 21 SCL/P4, 22 SDA/P3, 23 A2/P2, 24 A1/P1, 25 A0/P0, 26 R/~{W}, 27 A/~{D}, 28 ~{CS}, 29 VDD (power), 30 GND (power), 31 ~{RESET}, 32 STD3, 33 STD2, 34 STD1, 35 STD0, 36 FL4, 37 FL3, 38 FL2, 39 FL1, 40 FL0, 41 S1, 42 S0, 43 F-R/~{W}, 44 ~{INTERRUPT}, 45 FLYWDIS, 46 NO-EDH, 47 ~{FIFO-RESET}, 48 PCLKOUT, 49 DOUTO, 50 GND (power), 51 VDD (power), 52 DOUT1, 53 DOUT2, 54 DOUT3, 55 DOUT4, 56 DOUT5, 57 DOUT6, 58 DOUT7, 59 DOUT8, 60 DOUT9, 61 V, 62 H, 63 F0, 64 F1, 65 F2, 66 FLAG-MAP, 67 GND (power), 68 VDD (power), 69 SVDD, 70 SDO, 71 ~{SDO}, 72 SGND, 73 VBLANKS/~{L}, 74 BYPASS-EDH, 75 SDOMODE, 76 BLANK-EN, 77 ~{ANC-CHKSM}, 78 CLIP-TRS, 79 TRS-ERR, 80 ANC-DATA

## GS9020B
designator U?
footprint TQFP80-A
pins: 1 AVDD (power), 2 AGND (power), 3 AGND (power), 4 AVDD (power), 5 VDDSDI, 6 SDI, 7 ~{SDI}, 8 VDD~{SDI}, 9 VDDSCI, 10 SCI, 11 ~{SCI}, 12 VDD~{SCI}, 13 AVDD (power), 14 AGND (power), 15 HOSTIF-MODE, 16 FIFOE/~{S}, 17 CRC-MODE, 18 P7, 19 P6, 20 P5, 21 SCL/P4, 22 SDA/P3, 23 A2/P2, 24 A1/P1, 25 A0/P0, 26 R/~{W}, 27 A/~{D}, 28 ~{CS}, 29 VDD (power), 30 GND (power), 31 ~{RESET}, 32 STD3, 33 STD2, 34 STD1, 35 STD0, 36 FL4, 37 FL3, 38 FL2, 39 FL1, 40 FL0, 41 S1, 42 S0, 43 F-R/~{W}, 44 ~{INTERRUPT}, 45 FLYWDIS, 46 NO-EDH, 47 ~{FIFO-RESET}, 48 PCLKOUT, 49 DOUTO, 50 GND (power), 51 VDD (power), 52 DOUT1, 53 DOUT2, 54 DOUT3, 55 DOUT4, 56 DOUT5, 57 DOUT6, 58 DOUT7, 59 DOUT8, 60 DOUT9, 61 V, 62 H, 63 F0, 64 F1, 65 F2, 66 FLAG-MAP, 67 GND (power), 68 VDD (power), 69 SVDD, 70 SDO, 71 ~{SDO}, 72 SGND, 73 VBLANKS/~{L}, 74 BYPASS-EDH, 75 SDOMODE, 76 BLANK-EN, 77 ~{ANC-CHKSM}, 78 CLIP-TRS, 79 TRS-ERR, 80 ANC-DATA

## GS9020C
designator ?
part A pins: 1 AVDD (power), 2 AGND (power), 6 SDI, 7 ~{SDI}, 10 SCI, 11 ~{SCI}, 29 VDD (power), 30 GND (power), 48 PCLKOUT, 52 DOUT1, 53 DOUT2, 54 DOUT3, 55 DOUT4, 56 DOUT5, 57 DOUT6, 58 DOUT7, 59 DOUT8, 60 DOUT9, 70 SDO, 71 ~{SDO}
part B pins: 1 AVDD (power), 2 AGND (power), 3 AGND (power), 4 AVDD (power), 13 AVDD (power), 14 AGND (power), 15 HIF-M, 16 F/~{S}, 17 CRCM, 18 P7, 19 P6, 20 P5, 23 A2/P2, 24 A1/P1, 25 A0/P0, 26 R/~{W}, 27 A/~{D}, 28 ~{CS}, 29 VDD (power), 30 GND (power), 41 S1, 42 S0, 43 F-R/~{W}, 45 FLY, 50 GND (power), 51 VDD (power), 66 FLG-M, 67 GND (power), 68 VDD (power), 69 SVDD, 72 SGND, 73 VBK/L, 74 B-EDH, 76 BLK-E, 77 /ANC-C, 78 C-TRS

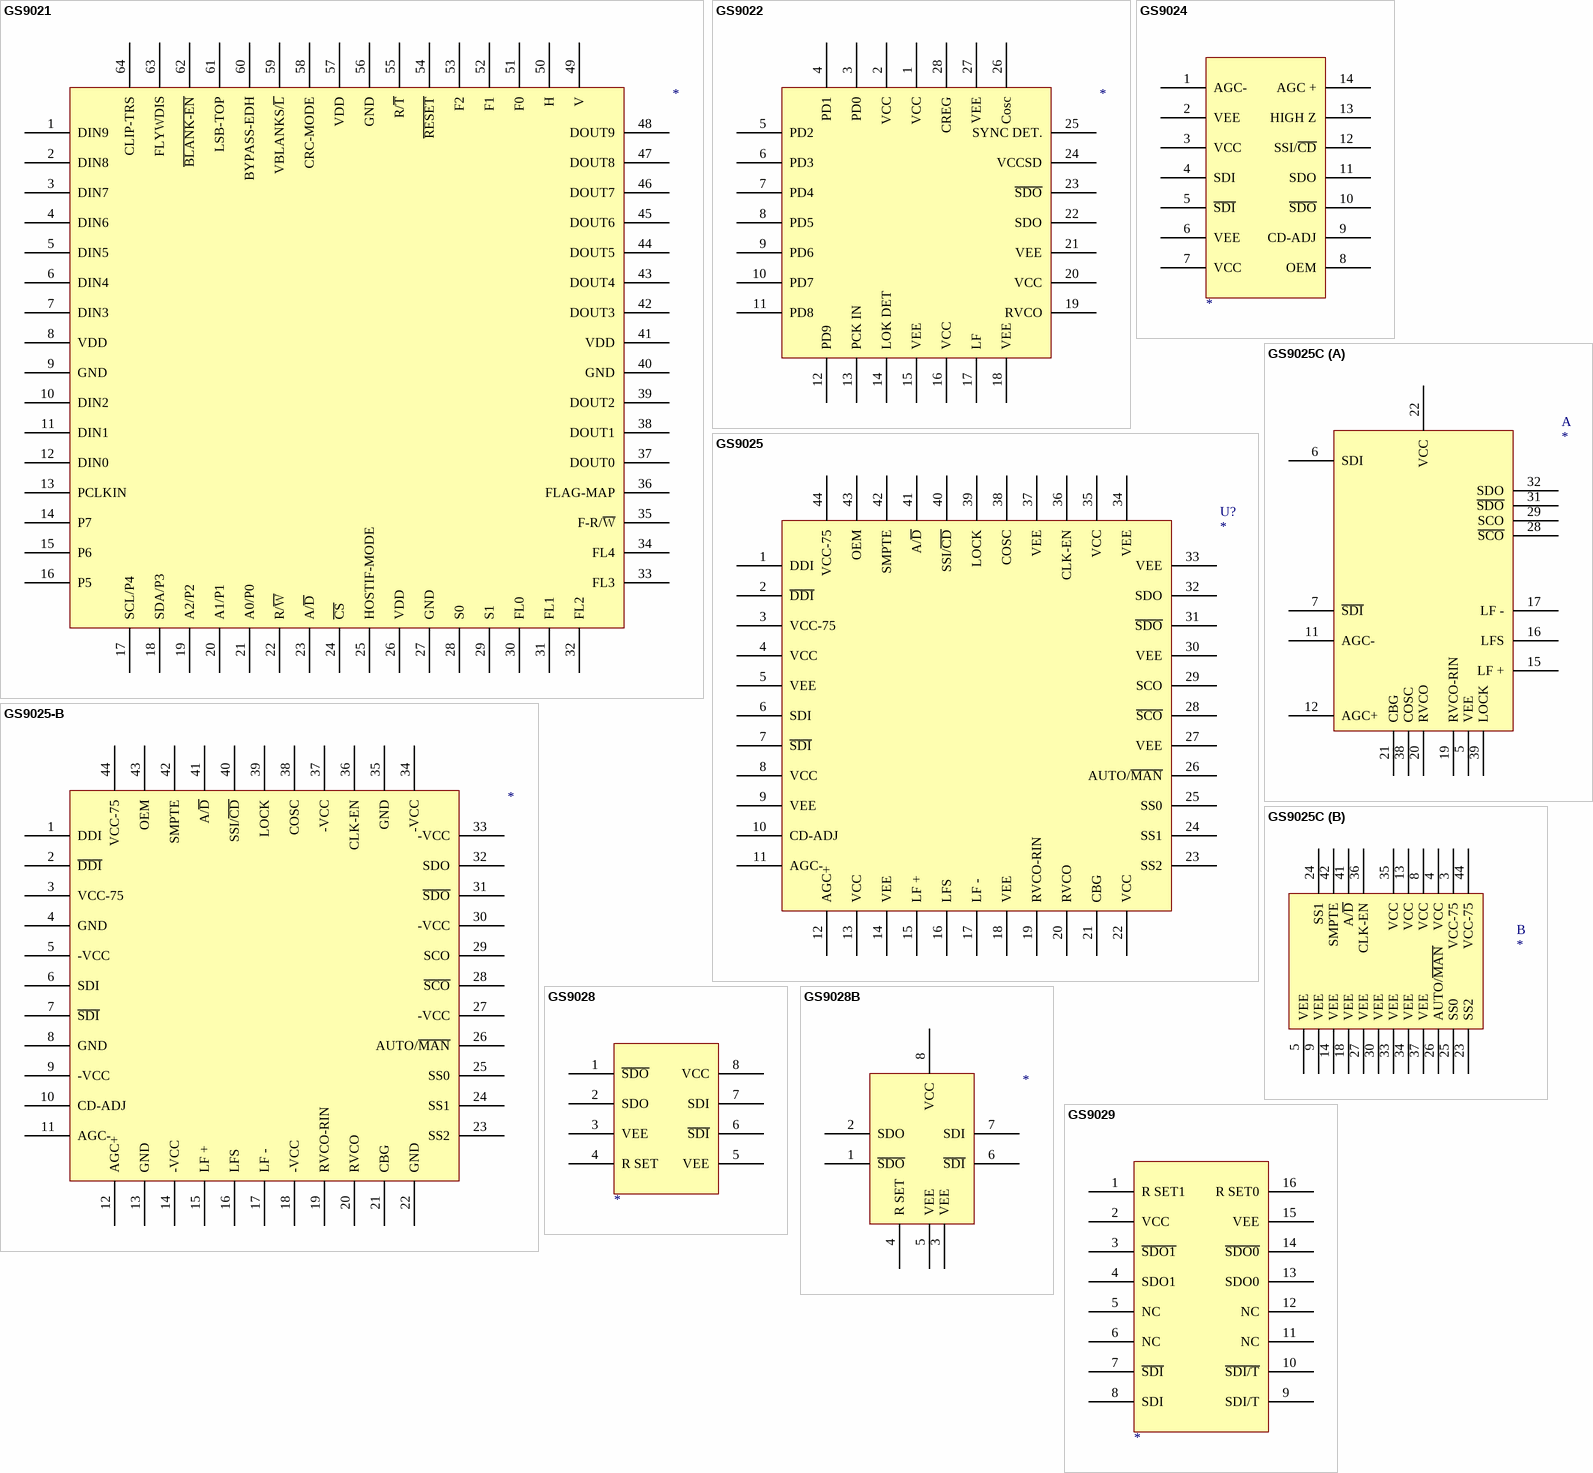
[diagram p28: symbols GS9021 to GS9029]